# Altium integrated library Lattice ORCA Series 2.IntLib: 202 symbols (part 8 of 22)
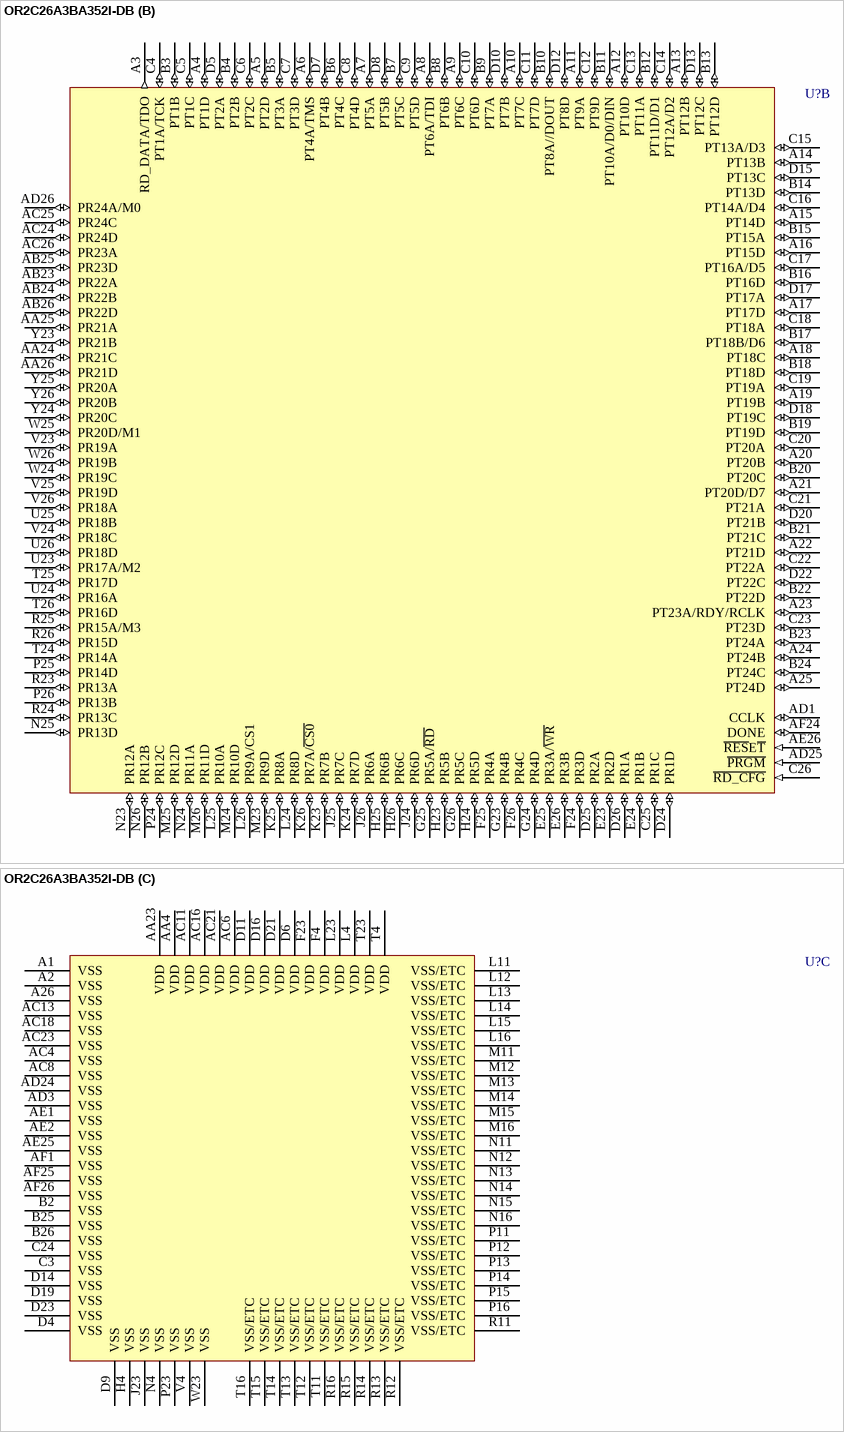
[diagram p199: symbol OR2C26A3BA352I-DB]

## OR2C26A3BA352I-DB
designator U?
ORCA Series 2C FPGA: 5.0 V, Industrial Grade, 384 User I/Os.; PinConnectionRecommendation: Ground array of 'VSS-ETC' pins for enhanced thermal capability or leave unconnected.; Published: 21-May-2003; LatestRevisionDate: 13-Apr-2006; LatestRevisionNote: IPC-7351 Footprint Added.; DatasheetVersion: Jan-2003; PackageVersion: pkg_32, Aug-2005; PackageReference: BGA388; Publisher: Altium Limited; PackageDescription: 388-Ball Ball Grid Array (BGA388); ComponentLink1Description: Manufacturer Link; ComponentLink1URL: http://www.latticesemi.com/products/fpga/orca/orca2/index.cfm; ComponentLink2Description: Datasheet; ComponentLink2URL: http://www.latticesemi.com/lit/docs/datasheets/fpga/ds99-094fpga.pdf; ComponentLink3Description: Lattice Login; ComponentLink3URL: http://www.latticesemi.com/account/login.cfm
footprint BGA388 (BGA, 388-Leads, Body 35x35mm, Pitch 1.27mm)
3D model OR2C26A-BGA388 (388-Ball Ball Grid Array (BGA388))
part A pins: AA1 PL21A (io), AA2 PL21C (io), AA3 PL23D (io), AB1 PL22A (io), AB2 PL22C (io), AB3 PL24C (io), AB4 PL23A (io), AC1 PL24D (io), AC2 PL23C (io), AC3 PL24A/A15 (io), AC5 PB3C (io), AC7 PB4C (io), AC9 PB6B (io), AC10 PB8D (io), AC12 PB12B (io), AC14 PB13B (io), AC15 PB17A (io), AC17 PB18C (io), AC19 PB20C (io), AC20 PB21C (io), AC22 PB23D (io), AD2 PL24B (io), AD4 PB2A (io), AD5 PB3D (io), AD6 PB4D/A17 (io), AD7 PB5D (io), AD8 PB6D (io), AD9 PB7D (io), AD10 PB9D (io), AD11 PB11D (io), AD12 PB12D (io), AD13 PB13D (io), AD14 PB14D (io), AD15 PB16A/HDC (io), AD16 PB18A/~{LDC} (io), AD17 PB19A (io), AD18 PB20A/~{INIT} (io), AD19 PB21A (io), AD20 PB22A (io), AD21 PB23A (io), AD22 PB24B (io), AD23 PB24D (io), AE3 PB1B (io), AE4 PB1D (io), AE5 PB3A (io), AE6 PB4B (io), AE7 PB5B (io), AE8 PB6A (io), AE9 PB7A (io), AE10 PB7C (io), AE11 PB9A (io), AE12 PB10D (io), AE13 PB12A (io), AE14 PB13A (io), AE15 PB14A (io), AE16 PB15D (io), AE17 PB17D (io), AE18 PB18D (io), AE19 PB19C (io), AE20 PB20B (io), AE21 PB21B (io), AE22 PB22B (io), AE23 PB23B (io), AE24 PB24C (io), AF2 PB1A/A16 (io), AF3 PB1C (io), AF4 PB2D (io), AF5 PB4A (io), AF6 PB5A (io), AF7 PB5C (io), AF8 PB6C (io), AF9 PB7B (io), AF10 PB8A (io), AF11 PB10A (io), AF12 PB11A (io), AF13 PB12C (io), AF14 PB13C (io), AF15 PB15A (io), AF16 PB16D (io), AF17 PB18B (io), AF18 PB19B (io), AF19 PB19D (io), AF20 PB20D (io), AF21 PB21D (io), AF22 PB22D (io), AF23 PB24A (io), B1 PL1D (io), C1 PL1B (io), C2 PL1C (io), D1 PL2A (io), D2 PL1A (io), D3 PL2D/A0 (io), E1 PL4D (io), E2 PL3D (io), E3 PL3A (io), E4 PL3B (io), F1 PL5D (io), F2 PL4C (io), F3 PL4A (io), G1 PL5B (io), G2 PL5C (io), G3 PL5A/A1 (io), G4 PL4B (io), H1 PL6B (io), H2 PL6D (io), H3 PL6A/A2 (io), J1 PL7C (io), J2 PL7D (io), J3 PL7A/A3 (io), J4 PL6C (io), K1 PL8D (io), K2 PL7B (io), K3 PL9A/A4 (io), K4 PL8A (io), L1 PL10D/A5 (io), L2 PL9D (io), L3 PL11A/A6 (io), M1 PL11D (io), M2 PL10A (io), M3 PL12A/A7 (io), M4 PL12C (io), N1 PL12B (io), N2 PL12D (io), N3 PL13A/A8 (io), P1 PL13B (io), P2 PL13D (io), P3 PL14A (io), P4 PL13C (io), R1 PL15D (io), R2 PL14D/A9 (io), R3 PL16D (io), R4 PL17D (io), T1 PL16A (io), T2 PL15A/A10 (io), T3 PL18D/A12 (io), U1 PL18C (io), U2 PL17A/A11 (io), U3 PL19D (io), U4 PL18B (io), V1 PL19C (io), V2 PL18A (io), V3 PL20D (io), W1 PL19A (io), W2 PL19B/A13 (io), W3 PL21D/A14 (io), W4 PL20B (io), Y1 PL20A (io), Y2 PL20C (io), Y3 PL22D (io), Y4 PL21B (io)
part B pins: A3 RD_DATA/TDO (out), A4 PT1D (io), A5 PT2D (io), A6 PT4A/TMS (io), A7 PT5A (io), A8 PT6A/TDI (io), A9 PT6C (io), A10 PT7C (io), A11 PT9A (io), A12 PT10D (io), A13 PT12B (io), A14 PT13B (io), A15 PT14D (io), A16 PT15D (io), A17 PT17D (io), A18 PT18C (io), A19 PT19B (io), A20 PT20B (io), A21 PT20D/D7 (io), A22 PT21D (io), A23 PT23A/RDY/RCLK (io), A24 PT24B (io), A25 PT24D (io), AA24 PR21C (io), AA25 PR21A (io), AA26 PR21D (io), AB23 PR22A (io), AB24 PR22B (io), AB25 PR23D (io), AB26 PR22D (io), AC24 PR24D (io), AC25 PR24C (io), AC26 PR23A (io), AD1 CCLK (io), AD25 ~{PRGM} (in), AD26 PR24A/M0 (io), AE26 ~{RES}E~{T} (in), AF24 DONE (io), B3 PT1B (io), B4 PT2B (io), B5 PT3A (io), B6 PT4C (io), B7 PT5C (io), B8 PT6B (io), B9 PT7A (io), B10 PT8A//DOUT (io), B11 PT10A/D0/DIN (io), B12 PT11D/D1 (io), B13 PT12D (io), B14 PT13D (io), B15 PT15A (io), B16 PT16D (io), B17 PT18B/D6 (io), B18 PT18D (io), B19 PT19D (io), B20 PT20C (io), B21 PT21C (io), B22 PT22D (io), B23 PT24A (io), B24 PT24C (io), C4 PT1A/TCK (io), C5 PT1C (io), C6 PT2C (io), C7 PT3D (io), C8 PT4D (io), C9 PT5D (io), C10 PT6D (io), C11 PT7D (io), C12 PT9D (io), C13 PT11A (io), C14 PT12A/D2 (io), C15 PT13A/D3 (io), C16 PT14A/D4 (io), C17 PT16A/D5 (io), C18 PT18A (io), C19 PT19A (io), C20 PT20A (io), C21 PT21A (io), C22 PT22A (io), C23 PT23D (io), C25 PR1C (io), C26 ~{RD_CFG} (in), D5 PT2A (io), D7 PT4B (io), D8 PT5B (io), D10 PT7B (io), D12 PT8D (io), D13 PT12C (io), D15 PT13C (io), D17 PT17A (io), D18 PT19C (io), D20 PT21B (io), D22 PT22C (io), D24 PR1D (io), D25 PR2A (io), D26 PR1A (io), E23 PR2D (io), E24 PR1B (io), E25 PR3A/~{WR} (io), E26 PR3B (io), F24 PR3D (io), F25 PR4A (io), F26 PR4C (io), G23 PR4B (io), G24 PR4D (io), G25 PR5A/~{RD} (io), G26 PR5C (io), H23 PR5B (io), H24 PR5D (io), H25 PR6B (io), H26 PR6C (io), J24 PR6D (io), J25 PR7C (io), J26 PR6A (io), K23 PR7B (io), K24 PR7D (io), K25 PR8A (io), K26 PR7A/~{CS0} (io), L24 PR8D (io), L25 PR10A (io), L26 PR9A/CS1 (io), M23 PR9D (io), M24 PR10D (io), M25 PR12D (io), M26 PR11D (io), N23 PR12A (io), N24 PR11A (io), N25 PR13D (io), N26 PR12B (io), P24 PR12C (io), P25 PR14D (io), P26 PR13B (io), R23 PR13A (io), R24 PR13C (io), R25 PR15A/M3 (io), R26 PR15D (io), T24 PR14A (io), T25 PR17D (io), T26 PR16D (io), U23 PR17A/M2 (io), U24 PR16A (io), U25 PR18B (io), U26 PR18D (io), V23 PR19A (io), V24 PR18C (io), V25 PR19D (io), V26 PR18A (io), W24 PR19C (io), W25 PR20D/M1 (io), W26 PR19B (io), Y23 PR21B (io), Y24 PR20C (io), Y25 PR20A (io), Y26 PR20B (io)
part C pins: A1 VSS (power), A2 VSS (power), A26 VSS (power), AA4 VDD (power), AA23 VDD (power), AC4 VSS (power), AC6 VDD (power), AC8 VSS (power), AC11 VDD (power), AC13 VSS (power), AC16 VDD (power), AC18 VSS (power), AC21 VDD (power), AC23 VSS (power), AD3 VSS (power), AD24 VSS (power), AE1 VSS (power), AE2 VSS (power), AE25 VSS (power), AF1 VSS (power), AF25 VSS (power), AF26 VSS (power), B2 VSS (power), B25 VSS (power), B26 VSS (power), C3 VSS (power), C24 VSS (power), D4 VSS (power), D6 VDD (power), D9 VSS (power), D11 VDD (power), D14 VSS (power), D16 VDD (power), D19 VSS (power), D21 VDD (power), D23 VSS (power), F4 VDD (power), F23 VDD (power), H4 VSS (power), J23 VSS (power), L4 VDD (power), L11 VSS/ETC (power), L12 VSS/ETC (power), L13 VSS/ETC (power), L14 VSS/ETC (power), L15 VSS/ETC (power), L16 VSS/ETC (power), L23 VDD (power), M11 VSS/ETC (power), M12 VSS/ETC (power), M13 VSS/ETC (power), M14 VSS/ETC (power), M15 VSS/ETC (power), M16 VSS/ETC (power), N4 VSS (power), N11 VSS/ETC (power), N12 VSS/ETC (power), N13 VSS/ETC (power), N14 VSS/ETC (power), N15 VSS/ETC (power), N16 VSS/ETC (power), P11 VSS/ETC (power), P12 VSS/ETC (power), P13 VSS/ETC (power), P14 VSS/ETC (power), P15 VSS/ETC (power), P16 VSS/ETC (power), P23 VSS (power), R11 VSS/ETC (power), R12 VSS/ETC (power), R13 VSS/ETC (power), R14 VSS/ETC (power), R15 VSS/ETC (power), R16 VSS/ETC (power), T4 VDD (power), T11 VSS/ETC (power), T12 VSS/ETC (power), T13 VSS/ETC (power), T14 VSS/ETC (power), T15 VSS/ETC (power), T16 VSS/ETC (power), T23 VDD (power), V4 VSS (power), W23 VSS (power)

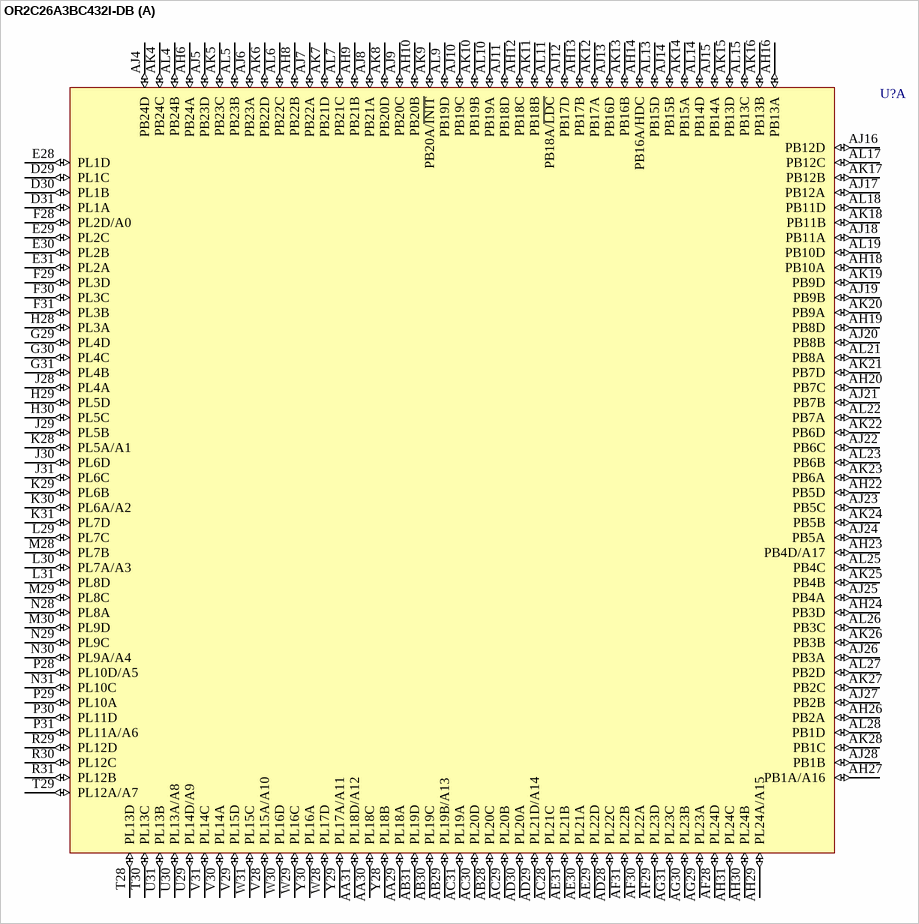
[diagram p56: symbol OR2C26A3BC432I-DB]

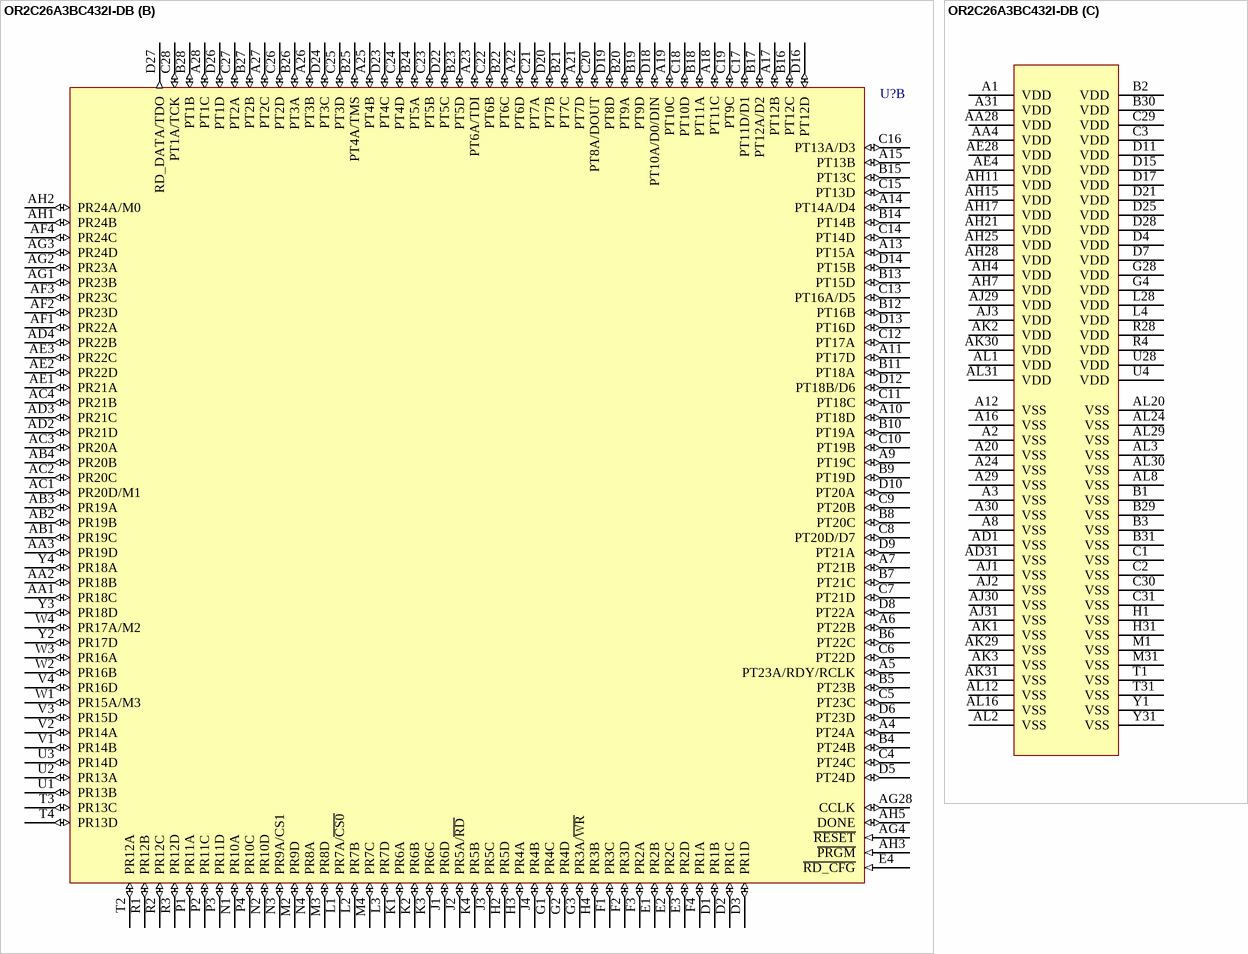
[diagram p57: symbol OR2C26A3BC432I-DB]

## OR2C26A3BC432I-DB
designator U?
ORCA Series 2C FPGA: 5.0 V, Industrial Grade, 384 User I/Os.; Published: 21-May-2003; LatestRevisionDate: 13-Apr-2006; LatestRevisionNote: IPC-7351 Footprint Added.; DatasheetVersion: Jan-2003; PackageVersion: pkg_32, Aug-2005; PackageReference: SBGA432; Publisher: Altium Limited; PackageDescription: 432-Ball Super Ball Grid Array (SBGA432); ComponentLink1Description: Manufacturer Link; ComponentLink1URL: http://www.latticesemi.com/products/fpga/orca/orca2/index.cfm; ComponentLink2Description: Datasheet; ComponentLink2URL: http://www.latticesemi.com/lit/docs/datasheets/fpga/ds99-094fpga.pdf; ComponentLink3Description: Lattice Login; ComponentLink3URL: http://www.latticesemi.com/account/login.cfm
footprint SBGA432 (BGA, 432-Leads, Body 40x40mm, Pitch 1.27mm)
3D model OR2C26A-SBGA432 (432-Ball Super Ball Grid Array (SBGA432))
part A pins: AA29 PL18A (io), AA30 PL18C (io), AA31 PL18D/A12 (io), AB28 PL20C (io), AB29 PL19B/A13 (io), AB30 PL19C (io), AB31 PL19D (io), AC28 PL21C (io), AC29 PL20B (io), AC30 PL20D (io), AC31 PL19A (io), AD28 PL22C (io), AD29 PL21D/A14 (io), AD30 PL20A (io), AE29 PL22D (io), AE30 PL21A (io), AE31 PL21B (io), AF28 PL24D (io), AF29 PL23D (io), AF30 PL22A (io), AF31 PL22B (io), AG29 PL23A (io), AG30 PL23B (io), AG31 PL23C (io), AH6 PB24A (io), AH8 PB22B (io), AH9 PB21B (io), AH10 PB20B (io), AH12 PB18C (io), AH13 PB17B (io), AH14 PB16A/HDC (io), AH16 PB13A (io), AH18 PB10A (io), AH19 PB8D (io), AH20 PB7C (io), AH22 PB5D (io), AH23 PB4D/A17 (io), AH24 PB3D (io), AH26 PB2A (io), AH27 PB1A/A16 (io), AH29 PL24A/A15 (io), AH30 PL24B (io), AH31 PL24C (io), AJ4 PB24D (io), AJ5 PB23D (io), AJ6 PB23A (io), AJ7 PB22A (io), AJ8 PB21A (io), AJ9 PB20C (io), AJ10 PB19C (io), AJ11 PB18D (io), AJ12 PB17D (io), AJ13 PB16D (io), AJ14 PB15B (io), AJ15 PB14A (io), AJ16 PB12D (io), AJ17 PB12A (io), AJ18 PB11A (io), AJ19 PB9B (io), AJ20 PB8B (io), AJ21 PB7B (io), AJ22 PB6C (io), AJ23 PB5C (io), AJ24 PB5A (io), AJ25 PB4A (io), AJ26 PB3A (io), AJ27 PB2B (io), AJ28 PB1B (io), AK4 PB24C (io), AK5 PB23C (io), AK6 PB22D (io), AK7 PB21D (io), AK8 PB20D (io), AK9 PB20A/~{INIT} (io), AK10 PB19B (io), AK11 PB18B (io), AK12 PB17A (io), AK13 PB16B (io), AK14 PB15A (io), AK15 PB13D (io), AK16 PB13B (io), AK17 PB12B (io), AK18 PB11B (io), AK19 PB9D (io), AK20 PB9A (io), AK21 PB7D (io), AK22 PB6D (io), AK23 PB6A (io), AK24 PB5B (io), AK25 PB4B (io), AK26 PB3B (io), AK27 PB2C (io), AK28 PB1C (io), AL4 PB24B (io), AL5 PB23B (io), AL6 PB22C (io), AL7 PB21C (io), AL9 PB19D (io), AL10 PB19A (io), AL11 PB18A/~{LDC} (io), AL13 PB15D (io), AL14 PB14D (io), AL15 PB13C (io), AL17 PB12C (io), AL18 PB11D (io), AL19 PB10D (io), AL21 PB8A (io), AL22 PB7A (io), AL23 PB6B (io), AL25 PB4C (io), AL26 PB3C (io), AL27 PB2D (io), AL28 PB1D (io), D29 PL1C (io), D30 PL1B (io), D31 PL1A (io), E28 PL1D (io), E29 PL2C (io), E30 PL2B (io), E31 PL2A (io), F28 PL2D/A0 (io), F29 PL3D (io), F30 PL3C (io), F31 PL3B (io), G29 PL4D (io), G30 PL4C (io), G31 PL4B (io), H28 PL3A (io), H29 PL5D (io), H30 PL5C (io), J28 PL4A (io), J29 PL5B (io), J30 PL6D (io), J31 PL6C (io), K28 PL5A/A1 (io), K29 PL6B (io), K30 PL6A/A2 (io), K31 PL7D (io), L29 PL7C (io), L30 PL7A/A3 (io), L31 PL8D (io), M28 PL7B (io), M29 PL8C (io), M30 PL9D (io), N28 PL8A (io), N29 PL9C (io), N30 PL9A/A4 (io), N31 PL10C (io), P28 PL10D/A5 (io), P29 PL10A (io), P30 PL11D (io), P31 PL11A/A6 (io), R29 PL12D (io), R30 PL12C (io), R31 PL12B (io), T28 PL13D (io), T29 PL12A/A7 (io), T30 PL13C (io), U29 PL14D/A9 (io), U30 PL13A/A8 (io), U31 PL13B (io), V28 PL15A/A10 (io), V29 PL15D (io), V30 PL14A (io), V31 PL14C (io), W28 PL17D (io), W29 PL16C (io), W30 PL16D (io), W31 PL15C (io), Y28 PL18B (io), Y29 PL17A/A11 (io), Y30 PL16A (io)
part B pins: A4 PT24A (io), A5 PT23A/RDY/RCLK (io), A6 PT22B (io), A7 PT21B (io), A9 PT19C (io), A10 PT18D (io), A11 PT17D (io), A13 PT15A (io), A14 PT14A/D4 (io), A15 PT13B (io), A17 PT12B (io), A18 PT11C (io), A19 PT10C (io), A21 PT7D (io), A22 PT6D (io), A23 PT6A/TDI (io), A25 PT4B (io), A26 PT3B (io), A27 PT2C (io), A28 PT1C (io), AA1 PR18C (io), AA2 PR18B (io), AA3 PR19D (io), AB1 PR19C (io), AB2 PR19B (io), AB3 PR19A (io), AB4 PR20B (io), AC1 PR20D/M1 (io), AC2 PR20C (io), AC3 PR20A (io), AC4 PR21B (io), AD2 PR21D (io), AD3 PR21C (io), AD4 PR22B (io), AE1 PR21A (io), AE2 PR22D (io), AE3 PR22C (io), AF1 PR22A (io), AF2 PR23D (io), AF3 PR23C (io), AF4 PR24C (io), AG1 PR23B (io), AG2 PR23A (io), AG3 PR24D (io), AG4 ~{RESET} (in), AG28 CCLK (io), AH1 PR24B (io), AH2 PR24A/M0 (io), AH3 ~{PRGM} (in), AH5 DONE (io), B4 PT24B (io), B5 PT23B (io), B6 PT22C (io), B7 PT21C (io), B8 PT20C (io), B9 PT19D (io), B10 PT19A (io), B11 PT18A (io), B12 PT16B (io), B13 PT15D (io), B14 PT14B (io), B15 PT13C (io), B16 PT12C (io), B17 PT12A/D2 (io), B18 PT11A (io), B19 PT9D (io), B20 PT9A (io), B21 PT7C (io), B22 PT6C (io), B23 PT5D (io), B24 PT5A (io), B25 PT4A/TMS (io), B26 PT3A (io), B27 PT2B (io), B28 PT1B (io), C4 PT24C (io), C5 PT23C (io), C6 PT22D (io), C7 PT21D (io), C8 PT20D/D7 (io), C9 PT20B (io), C10 PT19B (io), C11 PT18C (io), C12 PT17A (io), C13 PT16A/D5 (io), C14 PT14D (io), C15 PT13D (io), C16 PT13A/D3 (io), C17 PT11D/D1 (io), C18 PT10D (io), C19 PT9C (io), C20 PT8A/DOUT (io), C21 PT7A (io), C22 PT6B (io), C23 PT5B (io), C24 PT4D (io), C25 PT3D (io), C26 PT2D (io), C27 PT2A (io), C28 PT1A/TCK (io), D1 PR1B (io), D2 PR1C (io), D3 PR1D (io), D5 PT24D (io), D6 PT23D (io), D8 PT22A (io), D9 PT21A (io), D10 PT20A (io), D12 PT18B/D6 (io), D13 PT16D (io), D14 PT15B (io), D16 PT12D (io), D18 PT10A/D0/DIN (io), D19 PT8D (io), D20 PT7B (io), D22 PT5C (io), D23 PT4C (io), D24 PT3C (io), D26 PT1D (io), D27 RD_DATA/TDO (out), E1 PR2B (io), E2 PR2C (io), E3 PR2D (io), E4 ~{RD_CFG} (in), F1 PR3C (io), F2 PR3D (io), F3 PR2A (io), F4 PR1A (io), G1 PR4C (io), G2 PR4D (io), G3 PR3A/~{WR} (io), H2 PR5D (io), H3 PR4A (io), H4 PR3B (io), J1 PR6D (io), J2 PR5A/~{RD} (io), J3 PR5C (io), J4 PR4B (io), K1 PR6A (io), K2 PR6B (io), K3 PR6C (io), K4 PR5B (io), L1 PR7A/~{CS0} (io), L2 PR7B (io), L3 PR7D (io), M2 PR9D (io), M3 PR8D (io), M4 PR7C (io), N1 PR10A (io), N2 PR10D (io), N3 PR9A/CS1 (io), N4 PR8A (io), P1 PR11A (io), P2 PR11C (io), P3 PR11D (io), P4 PR10C (io), R1 PR12B (io), R2 PR12C (io), R3 PR12D (io), T2 PR12A (io), T3 PR13C (io), T4 PR13D (io), U1 PR13B (io), U2 PR13A (io), U3 PR14D (io), V1 PR14B (io), V2 PR14A (io), V3 PR15D (io), V4 PR16D (io), W1 PR15A/M3 (io), W2 PR16B (io), W3 PR16A (io), W4 PR17A/M2 (io), Y2 PR17D (io), Y3 PR18D (io), Y4 PR18A (io)
part C pins: A1 VDD (power), A2 VSS (power), A3 VSS (power), A8 VSS (power), A12 VSS (power), A16 VSS (power), A20 VSS (power), A24 VSS (power), A29 VSS (power), A30 VSS (power), A31 VDD (power), AA4 VDD (power), AA28 VDD (power), AD1 VSS (power), AD31 VSS (power), AE4 VDD (power), AE28 VDD (power), AH4 VDD (power), AH7 VDD (power), AH11 VDD (power), AH15 VDD (power), AH17 VDD (power), AH21 VDD (power), AH25 VDD (power), AH28 VDD (power), AJ1 VSS (power), AJ2 VSS (power), AJ3 VDD (power), AJ29 VDD (power), AJ30 VSS (power), AJ31 VSS (power), AK1 VSS (power), AK2 VDD (power), AK3 VSS (power), AK29 VSS (power), AK30 VDD (power), AK31 VSS (power), AL1 VDD (power), AL2 VSS (power), AL3 VSS (power), AL8 VSS (power), AL12 VSS (power), AL16 VSS (power), AL20 VSS (power), AL24 VSS (power), AL29 VSS (power), AL30 VSS (power), AL31 VDD (power), B1 VSS (power), B2 VDD (power), B3 VSS (power), B29 VSS (power), B30 VDD (power), B31 VSS (power), C1 VSS (power), C2 VSS (power), C3 VDD (power), C29 VDD (power), C30 VSS (power), C31 VSS (power), D4 VDD (power), D7 VDD (power), D11 VDD (power), D15 VDD (power), D17 VDD (power), D21 VDD (power), D25 VDD (power), D28 VDD (power), G4 VDD (power), G28 VDD (power), H1 VSS (power), H31 VSS (power), L4 VDD (power), L28 VDD (power), M1 VSS (power), M31 VSS (power), R4 VDD (power), R28 VDD (power), T1 VSS (power), T31 VSS (power), U4 VDD (power), U28 VDD (power), Y1 VSS (power), Y31 VSS (power)

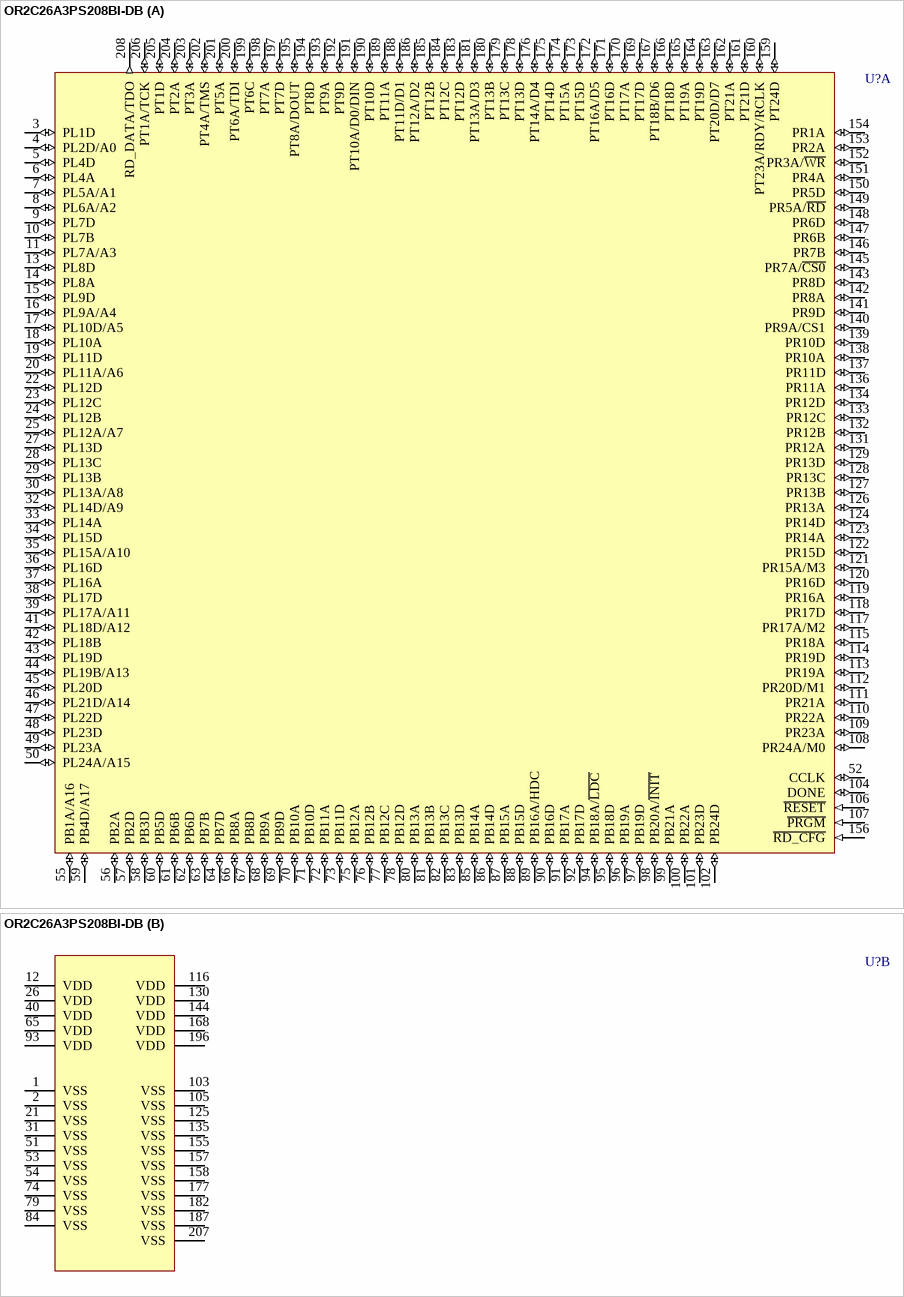
[diagram p58: symbol OR2C26A3PS208BI-DB]

## OR2C26A3PS208BI-DB
designator U?
ORCA Series 2C FPGA: 5.0 V, Industrial Grade, 384 User I/Os.; Published: 21-May-2003; LatestRevisionDate: 13-Apr-2006; LatestRevisionNote: IPC-7351 Footprint Added.; DatasheetVersion: Jan-2003; PackageVersion: pkg_32, Aug-2005; PackageReference: PQFP208; Publisher: Altium Limited; PackageDescription: 208-Pin Plastic Quad Flat Pack (PQFP208); Code_JEDEC: MO-143-FAI; ComponentLink1Description: Manufacturer Link; ComponentLink1URL: http://www.latticesemi.com/products/fpga/orca/orca2/index.cfm; ComponentLink2Description: Datasheet; ComponentLink2URL: http://www.latticesemi.com/lit/docs/datasheets/fpga/ds99-094fpga.pdf; ComponentLink3Description: Lattice Login; ComponentLink3URL: http://www.latticesemi.com/account/login.cfm
footprint PQFP208_N (Shrink QFP, 208-Leads, Body 28x28mm, Pitch 0.5mm, IPC Medium Density)
footprint PQFP208_L (Shrink QFP, 208-Leads, Body 28x28mm, Pitch 0.5mm, IPC High Density)
footprint PQFP208_M (Shrink QFP, 208-Leads, Body 28x28mm, Pitch 0.5mm, IPC Low Density)
3D model OR2C26A-PQFP208 (208-Pin Plastic Quad Flat Pack (PQFP208))
part A pins: 3 PL1D (io), 4 PL2D/A0 (io), 5 PL4D (io), 6 PL4A (io), 7 PL5A/A1 (io), 8 PL6A/A2 (io), 9 PL7D (io), 10 PL7B (io), 11 PL7A/A3 (io), 13 PL8D (io), 14 PL8A (io), 15 PL9D (io), 16 PL9A/A4 (io), 17 PL10D/A5 (io), 18 PL10A (io), 19 PL11D (io), 20 PL11A/A6 (io), 22 PL12D (io), 23 PL12C (io), 24 PL12B (io), 25 PL12A/A7 (io), 27 PL13D (io), 28 PL13C (io), 29 PL13B (io), 30 PL13A/A8 (io), 32 PL14D/A9 (io), 33 PL14A (io), 34 PL15D (io), 35 PL15A/A10 (io), 36 PL16D (io), 37 PL16A (io), 38 PL17D (io), 39 PL17A/A11 (io), 41 PL18D/A12 (io), 42 PL18B (io), 43 PL19D (io), 44 PL19B/A13 (io), 45 PL20D (io), 46 PL21D/A14 (io), 47 PL22D (io), 48 PL23D (io), 49 PL23A (io), 50 PL24A/A15 (io), 52 CCLK (io), 55 PB1A/A16 (io), 56 PB2A (io), 57 PB2D (io), 58 PB3D (io), 59 PB4D/A17 (io), 60 PB5D (io), 61 PB6B (io), 62 PB6D (io), 63 PB7B (io), 64 PB7D (io), 66 PB8A (io), 67 PB8D (io), 68 PB9A (io), 69 PB9D (io), 70 PB10A (io), 71 PB10D (io), 72 PB11A (io), 73 PB11D (io), 75 PB12A (io), 76 PB12B (io), 77 PB12C (io), 78 PB12D (io), 80 PB13A (io), 81 PB13B (io), 82 PB13C (io), 83 PB13D (io), 85 PB14A (io), 86 PB14D (io), 87 PB15A (io), 88 PB15D (io), 89 PB16A/HDC (io), 90 PB16D (io), 91 PB17A (io), 92 PB17D (io), 94 PB18A/~{LDC} (io), 95 PB18D (io), 96 PB19A (io), 97 PB19D (io), 98 PB20A/~{INIT} (io), 99 PB21A (io), 100 PB22A (io), 101 PB23D (io), 102 PB24D (io), 104 DONE (io), 106 ~{RESET} (in), 107 ~{PRGM} (in), 108 PR24A/M0 (io), 109 PR23A (io), 110 PR22A (io), 111 PR21A (io), 112 PR20D/M1 (io), 113 PR19A (io), 114 PR19D (io), 115 PR18A (io), 117 PR17A/M2 (io), 118 PR17D (io), 119 PR16A (io), 120 PR16D (io), 121 PR15A/M3 (io), 122 PR15D (io), 123 PR14A (io), 124 PR14D (io), 126 PR13A (io), 127 PR13B (io), 128 PR13C (io), 129 PR13D (io), 131 PR12A (io), 132 PR12B (io), 133 PR12C (io), 134 PR12D (io), 136 PR11A (io), 137 PR11D (io), 138 PR10A (io), 139 PR10D (io), 140 PR9A/CS1 (io), 141 PR9D (io), 142 PR8A (io), 143 PR8D (io), 145 PR7A/~{CS0} (io), 146 PR7B (io), 147 PR6B (io), 148 PR6D (io), 149 PR5A/~{RD} (io), 150 PR5D (io), 151 PR4A (io), 152 PR3A/~{WR} (io), 153 PR2A (io), 154 PR1A (io), 156 ~{RD_CFG} (in), 159 PT24D (io), 160 PT23A/RDY/RCLK (io), 161 PT21D (io), 162 PT21A (io), 163 PT20D/D7 (io), 164 PT19D (io), 165 PT19A (io), 166 PT18D (io), 167 PT18B/D6 (io), 169 PT17D (io), 170 PT17A (io), 171 PT16D (io), 172 PT16A/D5 (io), 173 PT15D (io), 174 PT15A (io), 175 PT14D (io), 176 PT14A/D4 (io), 178 PT13D (io), 179 PT13C (io), 180 PT13B (io), 181 PT13A/D3 (io), 183 PT12D (io), 184 PT12C (io), 185 PT12B (io), 186 PT12A/D2 (io), 188 PT11D/D1 (io), 189 PT11A (io), 190 PT10D (io), 191 PT10A/D0/DIN (io), 192 PT9D (io), 193 PT9A (io), 194 PT8D (io), 195 PT8A/DOUT (io), 197 PT7D (io), 198 PT7A (io), 199 PT6C (io), 200 PT6A/TDI (io), 201 PT5A (io), 202 PT4A/TMS (io), 203 PT3A (io), 204 PT2A (io), 205 PT1D (io), 206 PT1A/TCK (io), 208 RD_DATA/TDO (out)
part B pins: 1 VSS (power), 2 VSS (power), 12 VDD (power), 21 VSS (power), 26 VDD (power), 31 VSS (power), 40 VDD (power), 51 VSS (power), 53 VSS (power), 54 VSS (power), 65 VDD (power), 74 VSS (power), 79 VSS (power), 84 VSS (power), 93 VDD (power), 103 VSS (power), 105 VSS (power), 116 VDD (power), 125 VSS (power), 130 VDD (power), 135 VSS (power), 144 VDD (power), 155 VSS (power), 157 VSS (power), 158 VSS (power), 168 VDD (power), 177 VSS (power), 182 VSS (power), 187 VSS (power), 196 VDD (power), 207 VSS (power)

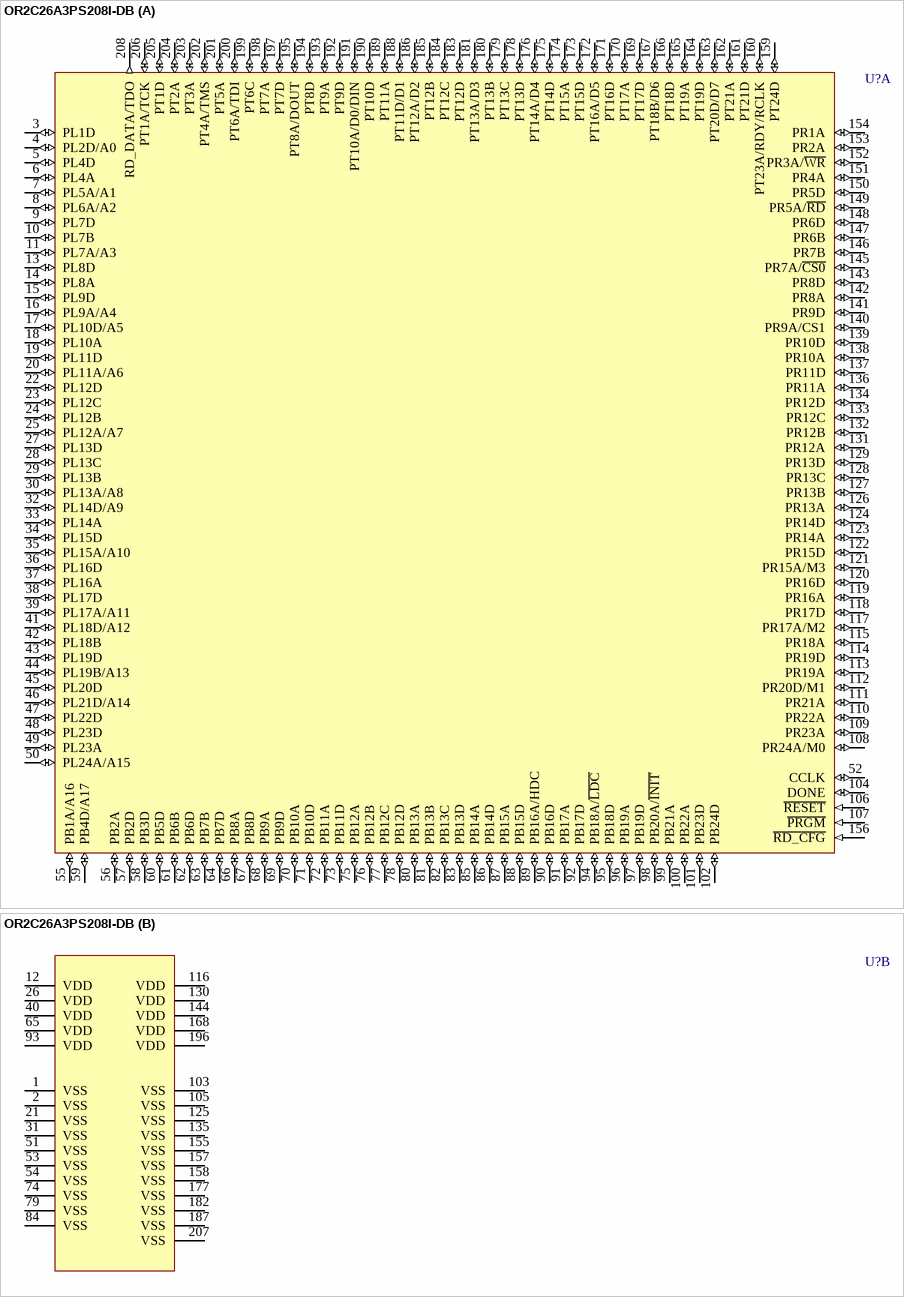
[diagram p59: symbol OR2C26A3PS208I-DB]

## OR2C26A3PS208I-DB
designator U?
ORCA Series 2C FPGA: 5.0 V, Industrial Grade, 384 User I/Os.; Published: 21-May-2003; LatestRevisionDate: 13-Apr-2006; LatestRevisionNote: IPC-7351 Footprint Added.; DatasheetVersion: Jan-2003; PackageVersion: pkg_32, Aug-2005; PackageReference: PQFP208; Publisher: Altium Limited; PackageDescription: 208-Pin Plastic Quad Flat Pack (PQFP208); Code_JEDEC: MO-143-FAI; ComponentLink1Description: Manufacturer Link; ComponentLink1URL: http://www.latticesemi.com/products/fpga/orca/orca2/index.cfm; ComponentLink2Description: Datasheet; ComponentLink2URL: http://www.latticesemi.com/lit/docs/datasheets/fpga/ds99-094fpga.pdf; ComponentLink3Description: Lattice Login; ComponentLink3URL: http://www.latticesemi.com/account/login.cfm
footprint PQFP208_N (Shrink QFP, 208-Leads, Body 28x28mm, Pitch 0.5mm, IPC Medium Density)
footprint PQFP208_L (Shrink QFP, 208-Leads, Body 28x28mm, Pitch 0.5mm, IPC High Density)
footprint PQFP208_M (Shrink QFP, 208-Leads, Body 28x28mm, Pitch 0.5mm, IPC Low Density)
3D model OR2C26A-PQFP208 (208-Pin Plastic Quad Flat Pack (PQFP208))
part A pins: 3 PL1D (io), 4 PL2D/A0 (io), 5 PL4D (io), 6 PL4A (io), 7 PL5A/A1 (io), 8 PL6A/A2 (io), 9 PL7D (io), 10 PL7B (io), 11 PL7A/A3 (io), 13 PL8D (io), 14 PL8A (io), 15 PL9D (io), 16 PL9A/A4 (io), 17 PL10D/A5 (io), 18 PL10A (io), 19 PL11D (io), 20 PL11A/A6 (io), 22 PL12D (io), 23 PL12C (io), 24 PL12B (io), 25 PL12A/A7 (io), 27 PL13D (io), 28 PL13C (io), 29 PL13B (io), 30 PL13A/A8 (io), 32 PL14D/A9 (io), 33 PL14A (io), 34 PL15D (io), 35 PL15A/A10 (io), 36 PL16D (io), 37 PL16A (io), 38 PL17D (io), 39 PL17A/A11 (io), 41 PL18D/A12 (io), 42 PL18B (io), 43 PL19D (io), 44 PL19B/A13 (io), 45 PL20D (io), 46 PL21D/A14 (io), 47 PL22D (io), 48 PL23D (io), 49 PL23A (io), 50 PL24A/A15 (io), 52 CCLK (io), 55 PB1A/A16 (io), 56 PB2A (io), 57 PB2D (io), 58 PB3D (io), 59 PB4D/A17 (io), 60 PB5D (io), 61 PB6B (io), 62 PB6D (io), 63 PB7B (io), 64 PB7D (io), 66 PB8A (io), 67 PB8D (io), 68 PB9A (io), 69 PB9D (io), 70 PB10A (io), 71 PB10D (io), 72 PB11A (io), 73 PB11D (io), 75 PB12A (io), 76 PB12B (io), 77 PB12C (io), 78 PB12D (io), 80 PB13A (io), 81 PB13B (io), 82 PB13C (io), 83 PB13D (io), 85 PB14A (io), 86 PB14D (io), 87 PB15A (io), 88 PB15D (io), 89 PB16A/HDC (io), 90 PB16D (io), 91 PB17A (io), 92 PB17D (io), 94 PB18A/~{LDC} (io), 95 PB18D (io), 96 PB19A (io), 97 PB19D (io), 98 PB20A/~{INIT} (io), 99 PB21A (io), 100 PB22A (io), 101 PB23D (io), 102 PB24D (io), 104 DONE (io), 106 ~{RESET} (in), 107 ~{PRGM} (in), 108 PR24A/M0 (io), 109 PR23A (io), 110 PR22A (io), 111 PR21A (io), 112 PR20D/M1 (io), 113 PR19A (io), 114 PR19D (io), 115 PR18A (io), 117 PR17A/M2 (io), 118 PR17D (io), 119 PR16A (io), 120 PR16D (io), 121 PR15A/M3 (io), 122 PR15D (io), 123 PR14A (io), 124 PR14D (io), 126 PR13A (io), 127 PR13B (io), 128 PR13C (io), 129 PR13D (io), 131 PR12A (io), 132 PR12B (io), 133 PR12C (io), 134 PR12D (io), 136 PR11A (io), 137 PR11D (io), 138 PR10A (io), 139 PR10D (io), 140 PR9A/CS1 (io), 141 PR9D (io), 142 PR8A (io), 143 PR8D (io), 145 PR7A/~{CS0} (io), 146 PR7B (io), 147 PR6B (io), 148 PR6D (io), 149 PR5A/~{RD} (io), 150 PR5D (io), 151 PR4A (io), 152 PR3A/~{WR} (io), 153 PR2A (io), 154 PR1A (io), 156 ~{RD_CFG} (in), 159 PT24D (io), 160 PT23A/RDY/RCLK (io), 161 PT21D (io), 162 PT21A (io), 163 PT20D/D7 (io), 164 PT19D (io), 165 PT19A (io), 166 PT18D (io), 167 PT18B/D6 (io), 169 PT17D (io), 170 PT17A (io), 171 PT16D (io), 172 PT16A/D5 (io), 173 PT15D (io), 174 PT15A (io), 175 PT14D (io), 176 PT14A/D4 (io), 178 PT13D (io), 179 PT13C (io), 180 PT13B (io), 181 PT13A/D3 (io), 183 PT12D (io), 184 PT12C (io), 185 PT12B (io), 186 PT12A/D2 (io), 188 PT11D/D1 (io), 189 PT11A (io), 190 PT10D (io), 191 PT10A/D0/DIN (io), 192 PT9D (io), 193 PT9A (io), 194 PT8D (io), 195 PT8A/DOUT (io), 197 PT7D (io), 198 PT7A (io), 199 PT6C (io), 200 PT6A/TDI (io), 201 PT5A (io), 202 PT4A/TMS (io), 203 PT3A (io), 204 PT2A (io), 205 PT1D (io), 206 PT1A/TCK (io), 208 RD_DATA/TDO (out)
part B pins: 1 VSS (power), 2 VSS (power), 12 VDD (power), 21 VSS (power), 26 VDD (power), 31 VSS (power), 40 VDD (power), 51 VSS (power), 53 VSS (power), 54 VSS (power), 65 VDD (power), 74 VSS (power), 79 VSS (power), 84 VSS (power), 93 VDD (power), 103 VSS (power), 105 VSS (power), 116 VDD (power), 125 VSS (power), 130 VDD (power), 135 VSS (power), 144 VDD (power), 155 VSS (power), 157 VSS (power), 158 VSS (power), 168 VDD (power), 177 VSS (power), 182 VSS (power), 187 VSS (power), 196 VDD (power), 207 VSS (power)

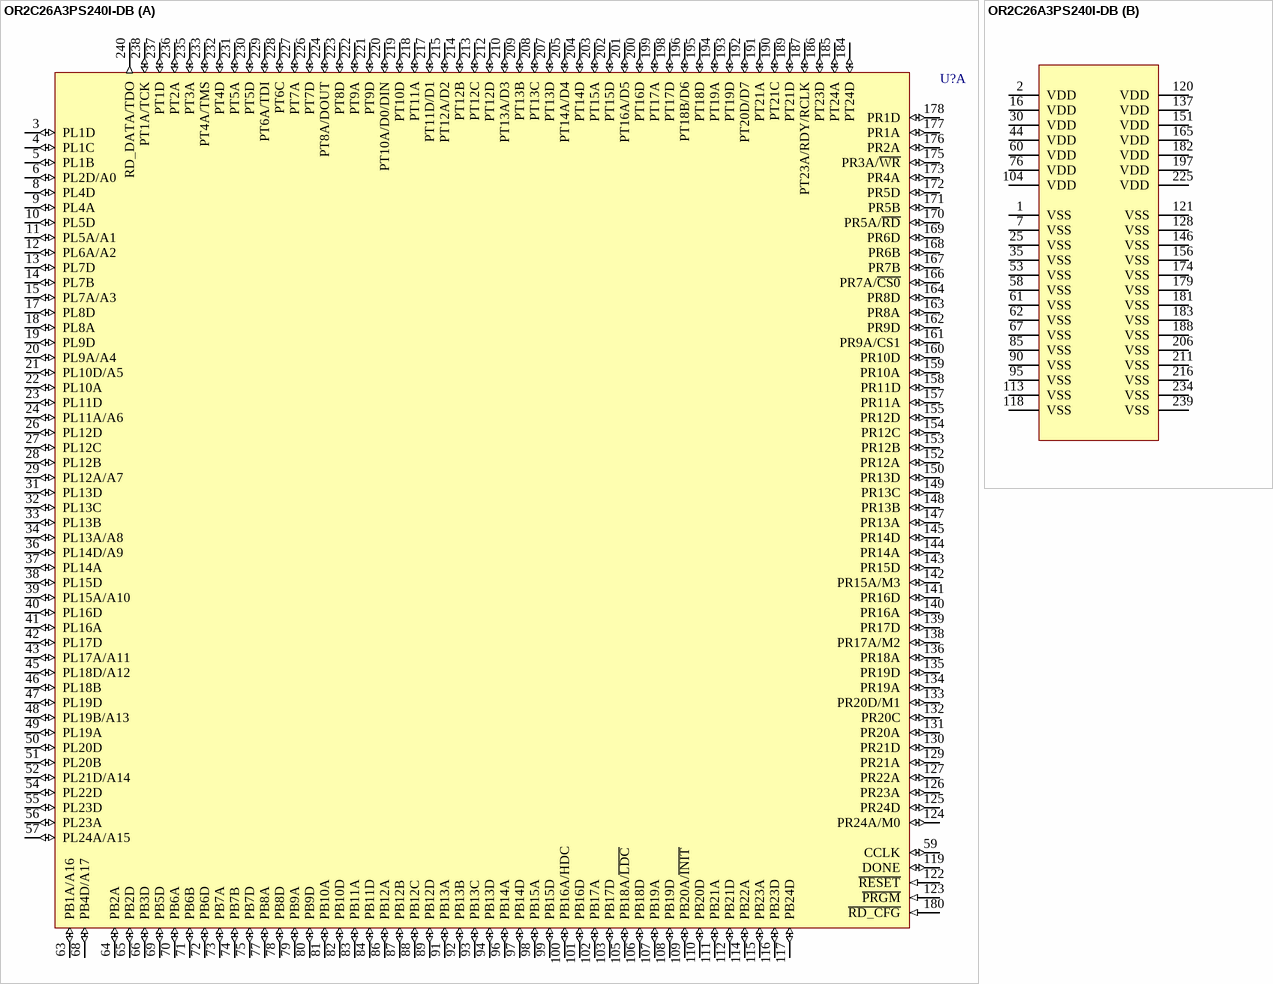
[diagram p60: symbol OR2C26A3PS240I-DB]

## OR2C26A3PS240I-DB
designator U?
ORCA Series 2C FPGA: 5.0 V, Industrial Grade, 384 User I/Os.; Published: 21-May-2003; LatestRevisionDate: 13-Apr-2006; LatestRevisionNote: IPC-7351 Footprint Added.; DatasheetVersion: Jan-2003; PackageVersion: pkg_32, Aug-2005; PackageReference: PQFP240; Publisher: Altium Limited; PackageDescription: 240-Pin Shrink Quad Flat Pack 0.5 mm Pitch; ComponentLink1Description: Manufacturer Link; ComponentLink1URL: http://www.latticesemi.com/products/fpga/orca/orca2/index.cfm; ComponentLink2Description: Datasheet; ComponentLink2URL: http://www.latticesemi.com/lit/docs/datasheets/fpga/ds99-094fpga.pdf; ComponentLink3Description: Lattice Login; ComponentLink3URL: http://www.latticesemi.com/account/login.cfm
footprint PQFP240_N (Shrink QFP, 240-Leads, Body 32x32mm, Pitch 0.5mm, IPC Medium Density)
footprint PQFP240_L (Shrink QFP, 240-Leads, Body 32x32mm, Pitch 0.5mm, IPC High Density)
footprint PQFP240_M (Shrink QFP, 240-Leads, Body 32x32mm, Pitch 0.5mm, IPC Low Density)
3D model OR2C26A-PQFP240 (240-Pin Shrink Quad Flat Pack 0.5 mm Pitch)
part A pins: 3 PL1D (io), 4 PL1C (io), 5 PL1B (io), 6 PL2D/A0 (io), 8 PL4D (io), 9 PL4A (io), 10 PL5D (io), 11 PL5A/A1 (io), 12 PL6A/A2 (io), 13 PL7D (io), 14 PL7B (io), 15 PL7A/A3 (io), 17 PL8D (io), 18 PL8A (io), 19 PL9D (io), 20 PL9A/A4 (io), 21 PL10D/A5 (io), 22 PL10A (io), 23 PL11D (io), 24 PL11A/A6 (io), 26 PL12D (io), 27 PL12C (io), 28 PL12B (io), 29 PL12A/A7 (io), 31 PL13D (io), 32 PL13C (io), 33 PL13B (io), 34 PL13A/A8 (io), 36 PL14D/A9 (io), 37 PL14A (io), 38 PL15D (io), 39 PL15A/A10 (io), 40 PL16D (io), 41 PL16A (io), 42 PL17D (io), 43 PL17A/A11 (io), 45 PL18D/A12 (io), 46 PL18B (io), 47 PL19D (io), 48 PL19B/A13 (io), 49 PL19A (io), 50 PL20D (io), 51 PL20B (io), 52 PL21D/A14 (io), 54 PL22D (io), 55 PL23D (io), 56 PL23A (io), 57 PL24A/A15 (io), 59 CCLK (io), 63 PB1A/A16 (io), 64 PB2A (io), 65 PB2D (io), 66 PB3D (io), 68 PB4D/A17 (io), 69 PB5D (io), 70 PB6A (io), 71 PB6B (io), 72 PB6D (io), 73 PB7A (io), 74 PB7B (io), 75 PB7D (io), 77 PB8A (io), 78 PB8D (io), 79 PB9A (io), 80 PB9D (io), 81 PB10A (io), 82 PB10D (io), 83 PB11A (io), 84 PB11D (io), 86 PB12A (io), 87 PB12B (io), 88 PB12C (io), 89 PB12D (io), 91 PB13A (io), 92 PB13B (io), 93 PB13C (io), 94 PB13D (io), 96 PB14A (io), 97 PB14D (io), 98 PB15A (io), 99 PB15D (io), 100 PB16A/HDC (io), 101 PB16D (io), 102 PB17A (io), 103 PB17D (io), 105 PB18A/~{LDC} (io), 106 PB18D (io), 107 PB19A (io), 108 PB19D (io), 109 PB20A/~{INIT} (io), 110 PB20D (io), 111 PB21A (io), 112 PB21D (io), 114 PB22A (io), 115 PB23A (io), 116 PB23D (io), 117 PB24D (io), 119 DONE (io), 122 ~{RESET} (in), 123 ~{PRGM} (in), 124 PR24A/M0 (io), 125 PR24D (io), 126 PR23A (io), 127 PR22A (io), 129 PR21A (io), 130 PR21D (io), 131 PR20A (io), 132 PR20C (io), 133 PR20D/M1 (io), 134 PR19A (io), 135 PR19D (io), 136 PR18A (io), 138 PR17A/M2 (io), 139 PR17D (io), 140 PR16A (io), 141 PR16D (io), 142 PR15A/M3 (io), 143 PR15D (io), 144 PR14A (io), 145 PR14D (io), 147 PR13A (io), 148 PR13B (io), 149 PR13C (io), 150 PR13D (io), 152 PR12A (io), 153 PR12B (io), 154 PR12C (io), 155 PR12D (io), 157 PR11A (io), 158 PR11D (io), 159 PR10A (io), 160 PR10D (io), 161 PR9A/CS1 (io), 162 PR9D (io), 163 PR8A (io), 164 PR8D (io), 166 PR7A/~{CS0} (io), 167 PR7B (io), 168 PR6B (io), 169 PR6D (io), 170 PR5A/~{RD} (io), 171 PR5B (io), 172 PR5D (io), 173 PR4A (io), 175 PR3A/~{WR} (io), 176 PR2A (io), 177 PR1A (io), 178 PR1D (io), 180 ~{RD_CFG} (in), 184 PT24D (io), 185 PT24A (io), 186 PT23D (io), 187 PT23A/RDY/RCLK (io), 189 PT21D (io), 190 PT21C (io), 191 PT21A (io), 192 PT20D/D7 (io), 193 PT19D (io), 194 PT19A (io), 195 PT18D (io), 196 PT18B/D6 (io), 198 PT17D (io), 199 PT17A (io), 200 PT16D (io), 201 PT16A/D5 (io), 202 PT15D (io), 203 PT15A (io), 204 PT14D (io), 205 PT14A/D4 (io), 207 PT13D (io), 208 PT13C (io), 209 PT13B (io), 210 PT13A/D3 (io), 212 PT12D (io), 213 PT12C (io), 214 PT12B (io), 215 PT12A/D2 (io), 217 PT11D/D1 (io), 218 PT11A (io), 219 PT10D (io), 220 PT10A/D0/DIN (io), 221 PT9D (io), 222 PT9A (io), 223 PT8D (io), 224 PT8A/DOUT (io), 226 PT7D (io), 227 PT7A (io), 228 PT6C (io), 229 PT6A/TDI (io), 230 PT5D (io), 231 PT5A (io), 232 PT4D (io), 233 PT4A/TMS (io), 235 PT3A (io), 236 PT2A (io), 237 PT1D (io), 238 PT1A/TCK (io), 240 RD_DATA/TDO (out)
part B pins: 1 VSS (power), 2 VDD (power), 7 VSS (power), 16 VDD (power), 25 VSS (power), 30 VDD (power), 35 VSS (power), 44 VDD (power), 53 VSS (power), 58 VSS (power), 60 VDD (power), 61 VSS (power), 62 VSS (power), 67 VSS (power), 76 VDD (power), 85 VSS (power), 90 VSS (power), 95 VSS (power), 104 VDD (power), 113 VSS (power), 118 VSS (power), 120 VDD (power), 121 VSS (power), 128 VSS (power), 137 VDD (power), 146 VSS (power), 151 VDD (power), 156 VSS (power), 165 VDD (power), 174 VSS (power), 179 VSS (power), 181 VSS (power), 182 VDD (power), 183 VSS (power), 188 VSS (power), 197 VDD (power), 206 VSS (power), 211 VSS (power), 216 VSS (power), 225 VDD (power), 234 VSS (power), 239 VSS (power)

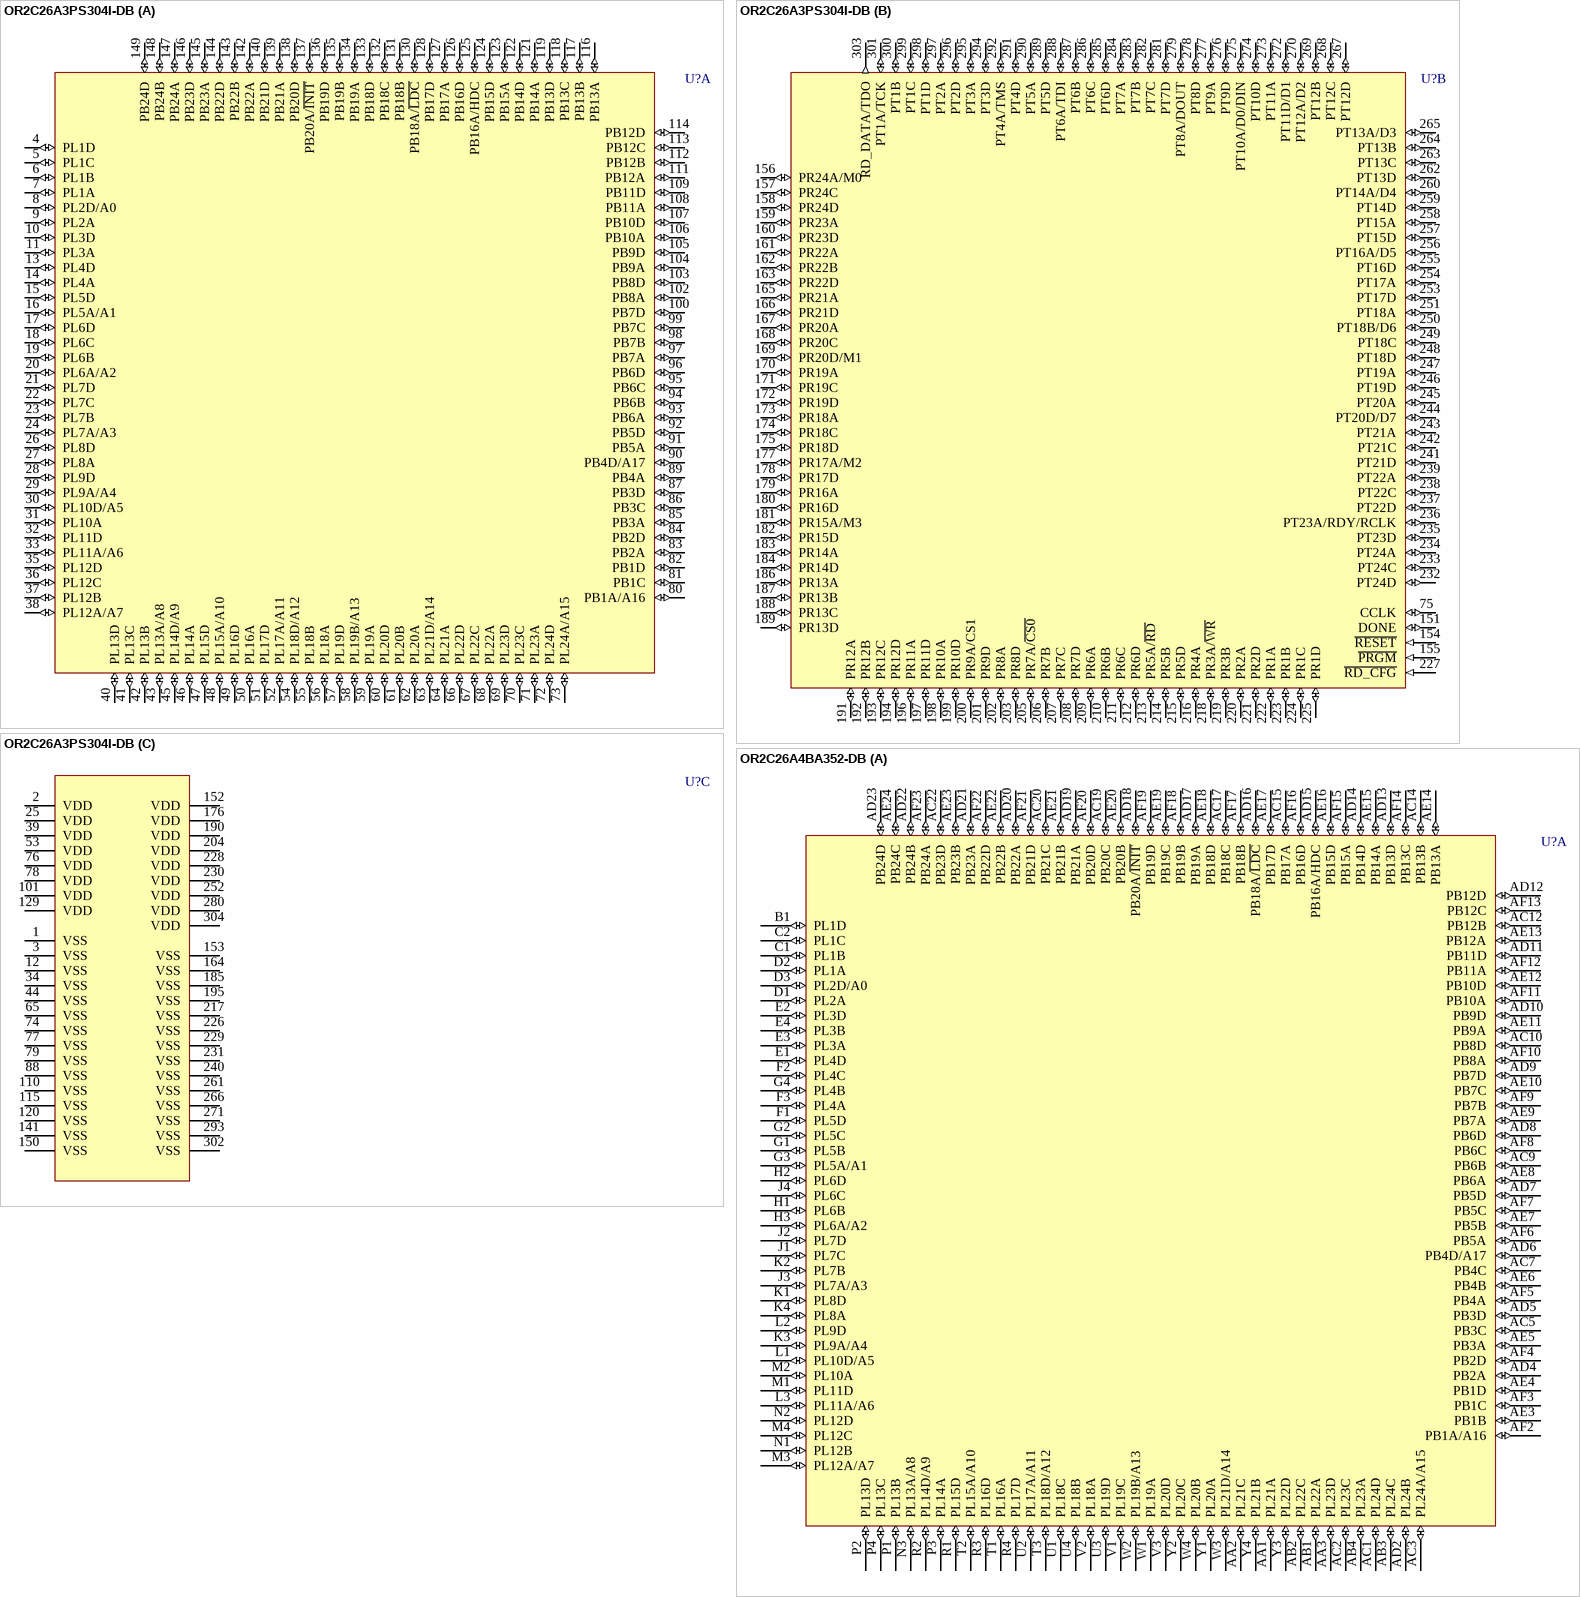
[diagram p61: symbols OR2C26A3PS304I-DB to OR2C26A4BA352-DB]

## OR2C26A3PS304I-DB
designator U?
ORCA Series 2C FPGA: 5.0 V, Industrial Grade, 384 User I/Os.; Published: 21-May-2003; LatestRevisionDate: 13-Apr-2006; LatestRevisionNote: IPC-7351 Footprint Added.; DatasheetVersion: Jan-2003; PackageVersion: pkg_32, Aug-2005; PackageReference: PQFP304; Publisher: Altium Limited; PackageDescription: 304-Pin Shrink Quad Flat Pack 0.5 mm Pitch; ComponentLink1Description: Manufacturer Link; ComponentLink1URL: http://www.latticesemi.com/products/fpga/orca/orca2/index.cfm; ComponentLink2Description: Datasheet; ComponentLink2URL: http://www.latticesemi.com/lit/docs/datasheets/fpga/ds99-094fpga.pdf; ComponentLink3Description: Lattice Login; ComponentLink3URL: http://www.latticesemi.com/account/login.cfm
footprint PQFP304_N (Shrink QFP, 304-Leads, Body 40x40mm, Pitch 0.5mm, IPC Medium Density)
footprint PQFP304_L (Shrink QFP, 304-Leads, Body 40x40mm, Pitch 0.5mm, IPC High Density)
footprint PQFP304_M (Shrink QFP, 304-Leads, Body 40x40mm, Pitch 0.5mm, IPC Low Density)
3D model OR2C26A-PQFP304 (304-Pin Shrink Quad Flat Pack 0.5 mm Pitch)
part A pins: 4 PL1D (io), 5 PL1C (io), 6 PL1B (io), 7 PL1A (io), 8 PL2D/A0 (io), 9 PL2A (io), 10 PL3D (io), 11 PL3A (io), 13 PL4D (io), 14 PL4A (io), 15 PL5D (io), 16 PL5A/A1 (io), 17 PL6D (io), 18 PL6C (io), 19 PL6B (io), 20 PL6A/A2 (io), 21 PL7D (io), 22 PL7C (io), 23 PL7B (io), 24 PL7A/A3 (io), 26 PL8D (io), 27 PL8A (io), 28 PL9D (io), 29 PL9A/A4 (io), 30 PL10D/A5 (io), 31 PL10A (io), 32 PL11D (io), 33 PL11A/A6 (io), 35 PL12D (io), 36 PL12C (io), 37 PL12B (io), 38 PL12A/A7 (io), 40 PL13D (io), 41 PL13C (io), 42 PL13B (io), 43 PL13A/A8 (io), 45 PL14D/A9 (io), 46 PL14A (io), 47 PL15D (io), 48 PL15A/A10 (io), 49 PL16D (io), 50 PL16A (io), 51 PL17D (io), 52 PL17A/A11 (io), 54 PL18D/A12 (io), 55 PL18B (io), 56 PL18A (io), 57 PL19D (io), 58 PL19B/A13 (io), 59 PL19A (io), 60 PL20D (io), 61 PL20B (io), 62 PL20A (io), 63 PL21D/A14 (io), 64 PL21A (io), 66 PL22D (io), 67 PL22C (io), 68 PL22A (io), 69 PL23D (io), 70 PL23C (io), 71 PL23A (io), 72 PL24D (io), 73 PL24A/A15 (io), 80 PB1A/A16 (io), 81 PB1C (io), 82 PB1D (io), 83 PB2A (io), 84 PB2D (io), 85 PB3A (io), 86 PB3C (io), 87 PB3D (io), 89 PB4A (io), 90 PB4D/A17 (io), 91 PB5A (io), 92 PB5D (io), 93 PB6A (io), 94 PB6B (io), 95 PB6C (io), 96 PB6D (io), 97 PB7A (io), 98 PB7B (io), 99 PB7C (io), 100 PB7D (io), 102 PB8A (io), 103 PB8D (io), 104 PB9A (io), 105 PB9D (io), 106 PB10A (io), 107 PB10D (io), 108 PB11A (io), 109 PB11D (io), 111 PB12A (io), 112 PB12B (io), 113 PB12C (io), 114 PB12D (io), 116 PB13A (io), 117 PB13B (io), 118 PB13C (io), 119 PB13D (io), 121 PB14A (io), 122 PB14D (io), 123 PB15A (io), 124 PB15D (io), 125 PB16A/HDC (io), 126 PB16D (io), 127 PB17A (io), 128 PB17D (io), 130 PB18A/~{LDC} (io), 131 PB18B (io), 132 PB18C (io), 133 PB18D (io), 134 PB19A (io), 135 PB19B (io), 136 PB19D (io), 137 PB20A/~{INIT} (io), 138 PB20D (io), 139 PB21A (io), 140 PB21D (io), 142 PB22A (io), 143 PB22B (io), 144 PB22D (io), 145 PB23A (io), 146 PB23D (io), 147 PB24A (io), 148 PB24B (io), 149 PB24D (io)
part B pins: 75 CCLK (io), 151 DONE (io), 154 ~{RESET} (in), 155 ~{PRGM} (in), 156 PR24A/M0 (io), 157 PR24C (io), 158 PR24D (io), 159 PR23A (io), 160 PR23D (io), 161 PR22A (io), 162 PR22B (io), 163 PR22D (io), 165 PR21A (io), 166 PR21D (io), 167 PR20A (io), 168 PR20C (io), 169 PR20D/M1 (io), 170 PR19A (io), 171 PR19C (io), 172 PR19D (io), 173 PR18A (io), 174 PR18C (io), 175 PR18D (io), 177 PR17A/M2 (io), 178 PR17D (io), 179 PR16A (io), 180 PR16D (io), 181 PR15A/M3 (io), 182 PR15D (io), 183 PR14A (io), 184 PR14D (io), 186 PR13A (io), 187 PR13B (io), 188 PR13C (io), 189 PR13D (io), 191 PR12A (io), 192 PR12B (io), 193 PR12C (io), 194 PR12D (io), 196 PR11A (io), 197 PR11D (io), 198 PR10A (io), 199 PR10D (io), 200 PR9A/CS1 (io), 201 PR9D (io), 202 PR8A (io), 203 PR8D (io), 205 PR7A/~{CS0} (io), 206 PR7B (io), 207 PR7C (io), 208 PR7D (io), 209 PR6A (io), 210 PR6B (io), 211 PR6C (io), 212 PR6D (io), 213 PR5A/~{RD} (io), 214 PR5B (io), 215 PR5D (io), 216 PR4A (io), 218 PR3A/~{WR} (io), 219 PR3B (io), 220 PR2A (io), 221 PR2D (io), 222 PR1A (io), 223 PR1B (io), 224 PR1C (io), 225 PR1D (io), 227 ~{RD_CFG} (in), 232 PT24D (io), 233 PT24C (io), 234 PT24A (io), 235 PT23D (io), 236 PT23A/RDY/RCLK (io), 237 PT22D (io), 238 PT22C (io), 239 PT22A (io), 241 PT21D (io), 242 PT21C (io), 243 PT21A (io), 244 PT20D/D7 (io), 245 PT20A (io), 246 PT19D (io), 247 PT19A (io), 248 PT18D (io), 249 PT18C (io), 250 PT18B/D6 (io), 251 PT18A (io), 253 PT17D (io), 254 PT17A (io), 255 PT16D (io), 256 PT16A/D5 (io), 257 PT15D (io), 258 PT15A (io), 259 PT14D (io), 260 PT14A/D4 (io), 262 PT13D (io), 263 PT13C (io), 264 PT13B (io), 265 PT13A/D3 (io), 267 PT12D (io), 268 PT12C (io), 269 PT12B (io), 270 PT12A/D2 (io), 272 PT11D/D1 (io), 273 PT11A (io), 274 PT10D (io), 275 PT10A/D0/DIN (io), 276 PT9D (io), 277 PT9A (io), 278 PT8D (io), 279 PT8A/DOUT (io), 281 PT7D (io), 282 PT7C (io), 283 PT7B (io), 284 PT7A (io), 285 PT6D (io), 286 PT6C (io), 287 PT6B (io), 288 PT6A/TDI (io), 289 PT5D (io), 290 PT5A (io), 291 PT4D (io), 292 PT4A/TMS (io), 294 PT3D (io), 295 PT3A (io), 296 PT2D (io), 297 PT2A (io), 298 PT1D (io), 299 PT1C (io), 300 PT1B (io), 301 PT1A/TCK (io), 303 RD_DATA/TDO (out)
part C pins: 1 VSS (power), 2 VDD (power), 3 VSS (power), 12 VSS (power), 25 VDD (power), 34 VSS (power), 39 VDD (power), 44 VSS (power), 53 VDD (power), 65 VSS (power), 74 VSS (power), 76 VDD (power), 77 VSS (power), 78 VDD (power), 79 VSS (power), 88 VSS (power), 101 VDD (power), 110 VSS (power), 115 VSS (power), 120 VSS (power), 129 VDD (power), 141 VSS (power), 150 VSS (power), 152 VDD (power), 153 VSS (power), 164 VSS (power), 176 VDD (power), 185 VSS (power), 190 VDD (power), 195 VSS (power), 204 VDD (power), 217 VSS (power), 226 VSS (power), 228 VDD (power), 229 VSS (power), 230 VDD (power), 231 VSS (power), 240 VSS (power), 252 VDD (power), 261 VSS (power), 266 VSS (power), 271 VSS (power), 280 VDD (power), 293 VSS (power), 302 VSS (power), 304 VDD (power)

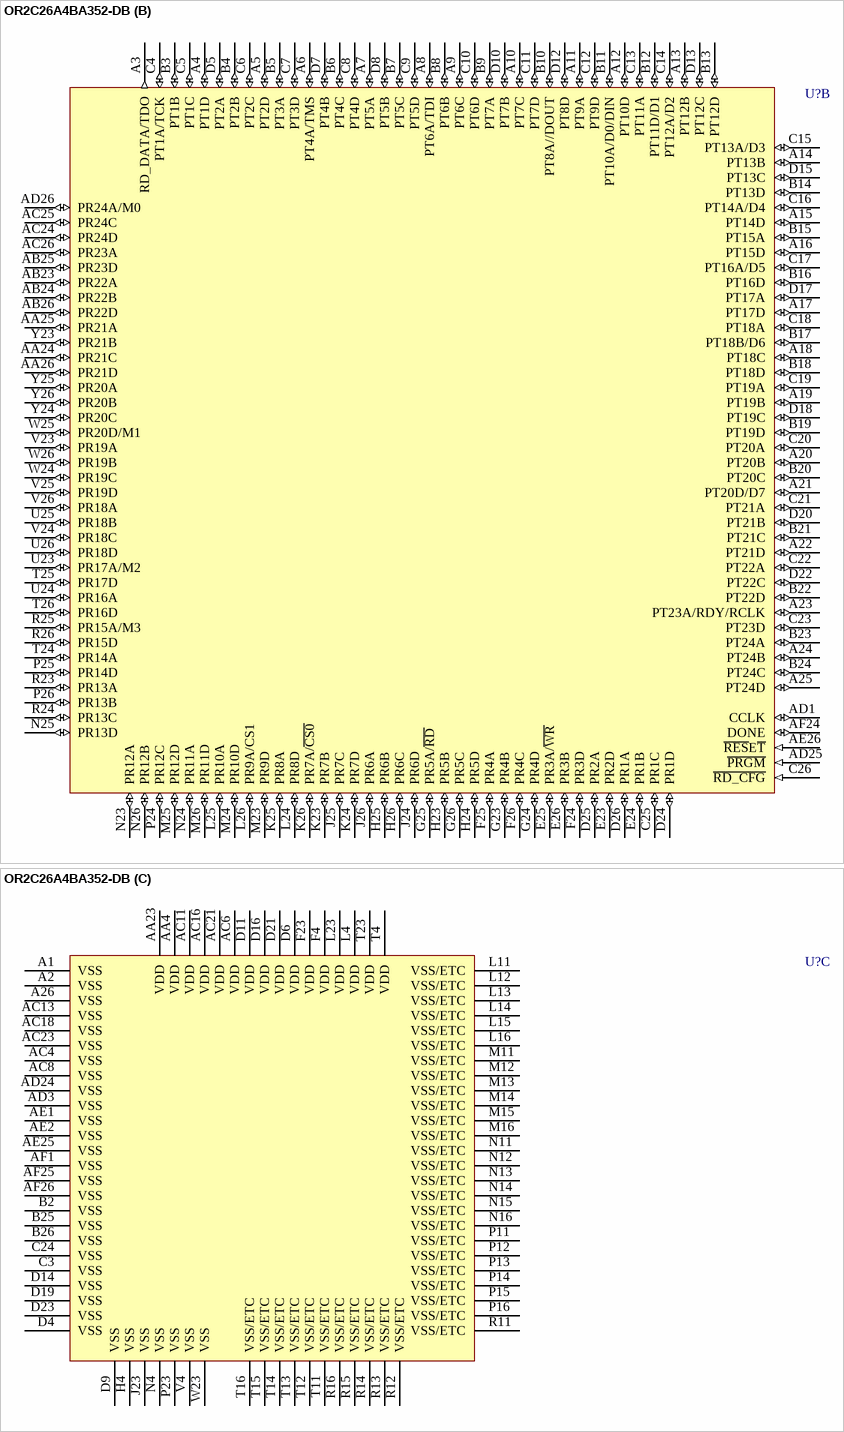
[diagram p62: symbol OR2C26A4BA352-DB]

## OR2C26A4BA352-DB
designator U?
ORCA Series 2C FPGA: 5.0 V, Commercial Grade, 384 User I/Os.; PinConnectionRecommendation: Ground array of 'VSS-ETC' pins for enhanced thermal capability or leave unconnected.; Published: 21-May-2003; LatestRevisionDate: 13-Apr-2006; LatestRevisionNote: IPC-7351 Footprint Added.; DatasheetVersion: Jan-2003; PackageVersion: pkg_32, Aug-2005; PackageReference: BGA388; Publisher: Altium Limited; PackageDescription: 388-Ball Ball Grid Array (BGA388); ComponentLink1Description: Manufacturer Link; ComponentLink1URL: http://www.latticesemi.com/products/fpga/orca/orca2/index.cfm; ComponentLink2Description: Datasheet; ComponentLink2URL: http://www.latticesemi.com/lit/docs/datasheets/fpga/ds99-094fpga.pdf; ComponentLink3Description: Lattice Login; ComponentLink3URL: http://www.latticesemi.com/account/login.cfm
footprint BGA388 (BGA, 388-Leads, Body 35x35mm, Pitch 1.27mm)
3D model OR2C26A-BGA388 (388-Ball Ball Grid Array (BGA388))
part A pins: AA1 PL21A (io), AA2 PL21C (io), AA3 PL23D (io), AB1 PL22A (io), AB2 PL22C (io), AB3 PL24C (io), AB4 PL23A (io), AC1 PL24D (io), AC2 PL23C (io), AC3 PL24A/A15 (io), AC5 PB3C (io), AC7 PB4C (io), AC9 PB6B (io), AC10 PB8D (io), AC12 PB12B (io), AC14 PB13B (io), AC15 PB17A (io), AC17 PB18C (io), AC19 PB20C (io), AC20 PB21C (io), AC22 PB23D (io), AD2 PL24B (io), AD4 PB2A (io), AD5 PB3D (io), AD6 PB4D/A17 (io), AD7 PB5D (io), AD8 PB6D (io), AD9 PB7D (io), AD10 PB9D (io), AD11 PB11D (io), AD12 PB12D (io), AD13 PB13D (io), AD14 PB14D (io), AD15 PB16A/HDC (io), AD16 PB18A/~{LDC} (io), AD17 PB19A (io), AD18 PB20A/~{INIT} (io), AD19 PB21A (io), AD20 PB22A (io), AD21 PB23A (io), AD22 PB24B (io), AD23 PB24D (io), AE3 PB1B (io), AE4 PB1D (io), AE5 PB3A (io), AE6 PB4B (io), AE7 PB5B (io), AE8 PB6A (io), AE9 PB7A (io), AE10 PB7C (io), AE11 PB9A (io), AE12 PB10D (io), AE13 PB12A (io), AE14 PB13A (io), AE15 PB14A (io), AE16 PB15D (io), AE17 PB17D (io), AE18 PB18D (io), AE19 PB19C (io), AE20 PB20B (io), AE21 PB21B (io), AE22 PB22B (io), AE23 PB23B (io), AE24 PB24C (io), AF2 PB1A/A16 (io), AF3 PB1C (io), AF4 PB2D (io), AF5 PB4A (io), AF6 PB5A (io), AF7 PB5C (io), AF8 PB6C (io), AF9 PB7B (io), AF10 PB8A (io), AF11 PB10A (io), AF12 PB11A (io), AF13 PB12C (io), AF14 PB13C (io), AF15 PB15A (io), AF16 PB16D (io), AF17 PB18B (io), AF18 PB19B (io), AF19 PB19D (io), AF20 PB20D (io), AF21 PB21D (io), AF22 PB22D (io), AF23 PB24A (io), B1 PL1D (io), C1 PL1B (io), C2 PL1C (io), D1 PL2A (io), D2 PL1A (io), D3 PL2D/A0 (io), E1 PL4D (io), E2 PL3D (io), E3 PL3A (io), E4 PL3B (io), F1 PL5D (io), F2 PL4C (io), F3 PL4A (io), G1 PL5B (io), G2 PL5C (io), G3 PL5A/A1 (io), G4 PL4B (io), H1 PL6B (io), H2 PL6D (io), H3 PL6A/A2 (io), J1 PL7C (io), J2 PL7D (io), J3 PL7A/A3 (io), J4 PL6C (io), K1 PL8D (io), K2 PL7B (io), K3 PL9A/A4 (io), K4 PL8A (io), L1 PL10D/A5 (io), L2 PL9D (io), L3 PL11A/A6 (io), M1 PL11D (io), M2 PL10A (io), M3 PL12A/A7 (io), M4 PL12C (io), N1 PL12B (io), N2 PL12D (io), N3 PL13A/A8 (io), P1 PL13B (io), P2 PL13D (io), P3 PL14A (io), P4 PL13C (io), R1 PL15D (io), R2 PL14D/A9 (io), R3 PL16D (io), R4 PL17D (io), T1 PL16A (io), T2 PL15A/A10 (io), T3 PL18D/A12 (io), U1 PL18C (io), U2 PL17A/A11 (io), U3 PL19D (io), U4 PL18B (io), V1 PL19C (io), V2 PL18A (io), V3 PL20D (io), W1 PL19A (io), W2 PL19B/A13 (io), W3 PL21D/A14 (io), W4 PL20B (io), Y1 PL20A (io), Y2 PL20C (io), Y3 PL22D (io), Y4 PL21B (io)
part B pins: A3 RD_DATA/TDO (out), A4 PT1D (io), A5 PT2D (io), A6 PT4A/TMS (io), A7 PT5A (io), A8 PT6A/TDI (io), A9 PT6C (io), A10 PT7C (io), A11 PT9A (io), A12 PT10D (io), A13 PT12B (io), A14 PT13B (io), A15 PT14D (io), A16 PT15D (io), A17 PT17D (io), A18 PT18C (io), A19 PT19B (io), A20 PT20B (io), A21 PT20D/D7 (io), A22 PT21D (io), A23 PT23A/RDY/RCLK (io), A24 PT24B (io), A25 PT24D (io), AA24 PR21C (io), AA25 PR21A (io), AA26 PR21D (io), AB23 PR22A (io), AB24 PR22B (io), AB25 PR23D (io), AB26 PR22D (io), AC24 PR24D (io), AC25 PR24C (io), AC26 PR23A (io), AD1 CCLK (io), AD25 ~{PRGM} (in), AD26 PR24A/M0 (io), AE26 ~{RES}E~{T} (in), AF24 DONE (io), B3 PT1B (io), B4 PT2B (io), B5 PT3A (io), B6 PT4C (io), B7 PT5C (io), B8 PT6B (io), B9 PT7A (io), B10 PT8A//DOUT (io), B11 PT10A/D0/DIN (io), B12 PT11D/D1 (io), B13 PT12D (io), B14 PT13D (io), B15 PT15A (io), B16 PT16D (io), B17 PT18B/D6 (io), B18 PT18D (io), B19 PT19D (io), B20 PT20C (io), B21 PT21C (io), B22 PT22D (io), B23 PT24A (io), B24 PT24C (io), C4 PT1A/TCK (io), C5 PT1C (io), C6 PT2C (io), C7 PT3D (io), C8 PT4D (io), C9 PT5D (io), C10 PT6D (io), C11 PT7D (io), C12 PT9D (io), C13 PT11A (io), C14 PT12A/D2 (io), C15 PT13A/D3 (io), C16 PT14A/D4 (io), C17 PT16A/D5 (io), C18 PT18A (io), C19 PT19A (io), C20 PT20A (io), C21 PT21A (io), C22 PT22A (io), C23 PT23D (io), C25 PR1C (io), C26 ~{RD_CFG} (in), D5 PT2A (io), D7 PT4B (io), D8 PT5B (io), D10 PT7B (io), D12 PT8D (io), D13 PT12C (io), D15 PT13C (io), D17 PT17A (io), D18 PT19C (io), D20 PT21B (io), D22 PT22C (io), D24 PR1D (io), D25 PR2A (io), D26 PR1A (io), E23 PR2D (io), E24 PR1B (io), E25 PR3A/~{WR} (io), E26 PR3B (io), F24 PR3D (io), F25 PR4A (io), F26 PR4C (io), G23 PR4B (io), G24 PR4D (io), G25 PR5A/~{RD} (io), G26 PR5C (io), H23 PR5B (io), H24 PR5D (io), H25 PR6B (io), H26 PR6C (io), J24 PR6D (io), J25 PR7C (io), J26 PR6A (io), K23 PR7B (io), K24 PR7D (io), K25 PR8A (io), K26 PR7A/~{CS0} (io), L24 PR8D (io), L25 PR10A (io), L26 PR9A/CS1 (io), M23 PR9D (io), M24 PR10D (io), M25 PR12D (io), M26 PR11D (io), N23 PR12A (io), N24 PR11A (io), N25 PR13D (io), N26 PR12B (io), P24 PR12C (io), P25 PR14D (io), P26 PR13B (io), R23 PR13A (io), R24 PR13C (io), R25 PR15A/M3 (io), R26 PR15D (io), T24 PR14A (io), T25 PR17D (io), T26 PR16D (io), U23 PR17A/M2 (io), U24 PR16A (io), U25 PR18B (io), U26 PR18D (io), V23 PR19A (io), V24 PR18C (io), V25 PR19D (io), V26 PR18A (io), W24 PR19C (io), W25 PR20D/M1 (io), W26 PR19B (io), Y23 PR21B (io), Y24 PR20C (io), Y25 PR20A (io), Y26 PR20B (io)
part C pins: A1 VSS (power), A2 VSS (power), A26 VSS (power), AA4 VDD (power), AA23 VDD (power), AC4 VSS (power), AC6 VDD (power), AC8 VSS (power), AC11 VDD (power), AC13 VSS (power), AC16 VDD (power), AC18 VSS (power), AC21 VDD (power), AC23 VSS (power), AD3 VSS (power), AD24 VSS (power), AE1 VSS (power), AE2 VSS (power), AE25 VSS (power), AF1 VSS (power), AF25 VSS (power), AF26 VSS (power), B2 VSS (power), B25 VSS (power), B26 VSS (power), C3 VSS (power), C24 VSS (power), D4 VSS (power), D6 VDD (power), D9 VSS (power), D11 VDD (power), D14 VSS (power), D16 VDD (power), D19 VSS (power), D21 VDD (power), D23 VSS (power), F4 VDD (power), F23 VDD (power), H4 VSS (power), J23 VSS (power), L4 VDD (power), L11 VSS/ETC (power), L12 VSS/ETC (power), L13 VSS/ETC (power), L14 VSS/ETC (power), L15 VSS/ETC (power), L16 VSS/ETC (power), L23 VDD (power), M11 VSS/ETC (power), M12 VSS/ETC (power), M13 VSS/ETC (power), M14 VSS/ETC (power), M15 VSS/ETC (power), M16 VSS/ETC (power), N4 VSS (power), N11 VSS/ETC (power), N12 VSS/ETC (power), N13 VSS/ETC (power), N14 VSS/ETC (power), N15 VSS/ETC (power), N16 VSS/ETC (power), P11 VSS/ETC (power), P12 VSS/ETC (power), P13 VSS/ETC (power), P14 VSS/ETC (power), P15 VSS/ETC (power), P16 VSS/ETC (power), P23 VSS (power), R11 VSS/ETC (power), R12 VSS/ETC (power), R13 VSS/ETC (power), R14 VSS/ETC (power), R15 VSS/ETC (power), R16 VSS/ETC (power), T4 VDD (power), T11 VSS/ETC (power), T12 VSS/ETC (power), T13 VSS/ETC (power), T14 VSS/ETC (power), T15 VSS/ETC (power), T16 VSS/ETC (power), T23 VDD (power), V4 VSS (power), W23 VSS (power)

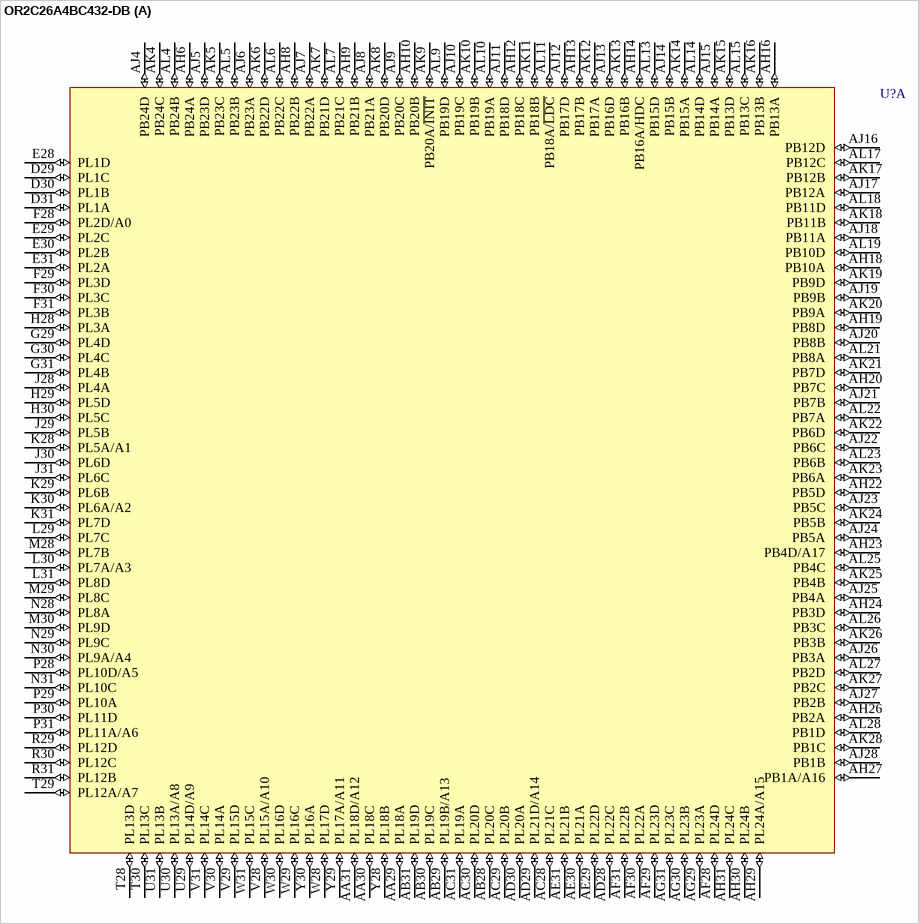
[diagram p63: symbol OR2C26A4BC432-DB]

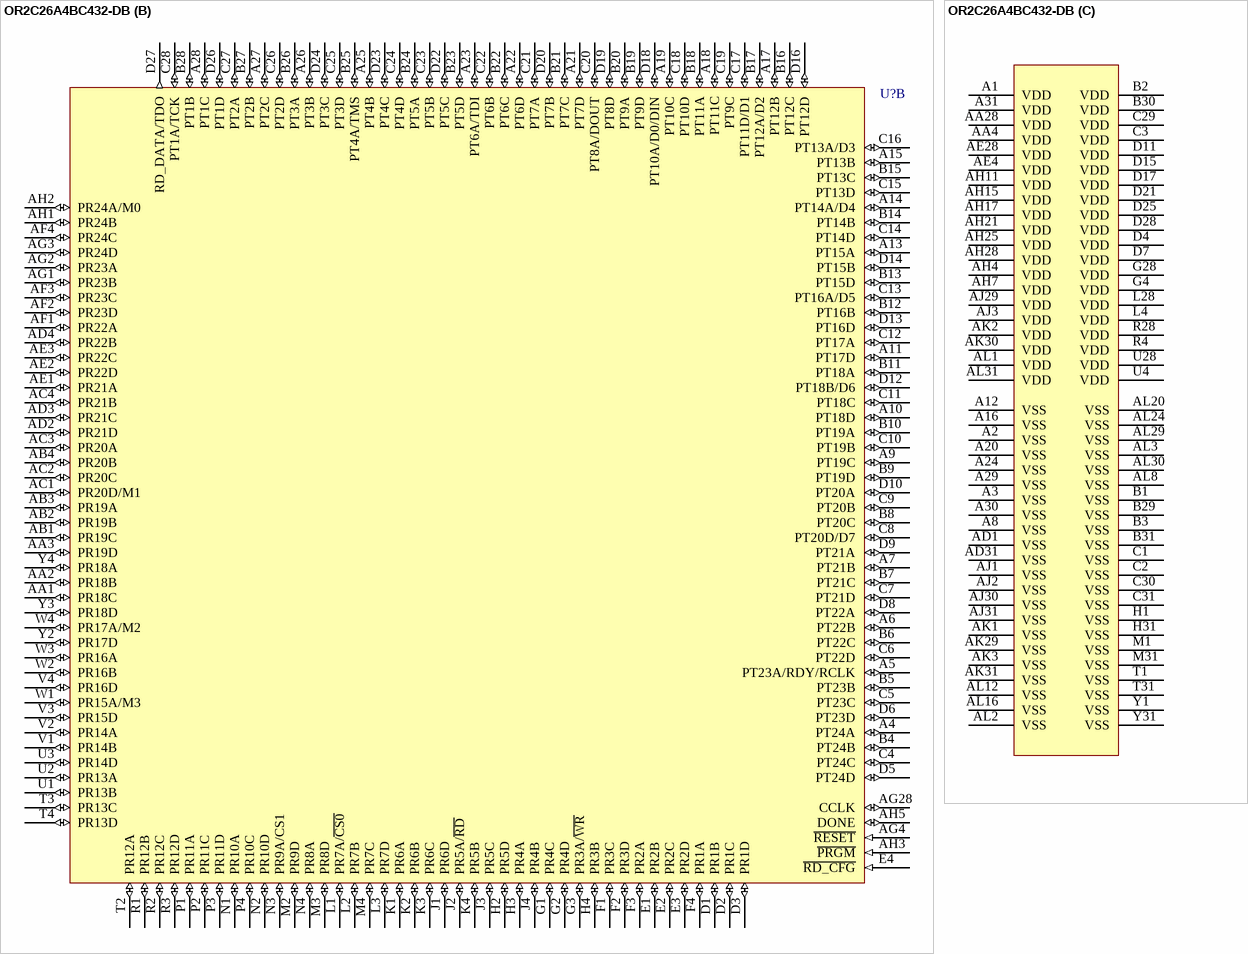
[diagram p64: symbol OR2C26A4BC432-DB]